# Altium integrated library Atmel Microcontroller 32-Bit ARM.IntLib: 116 symbols (part 6 of 10)
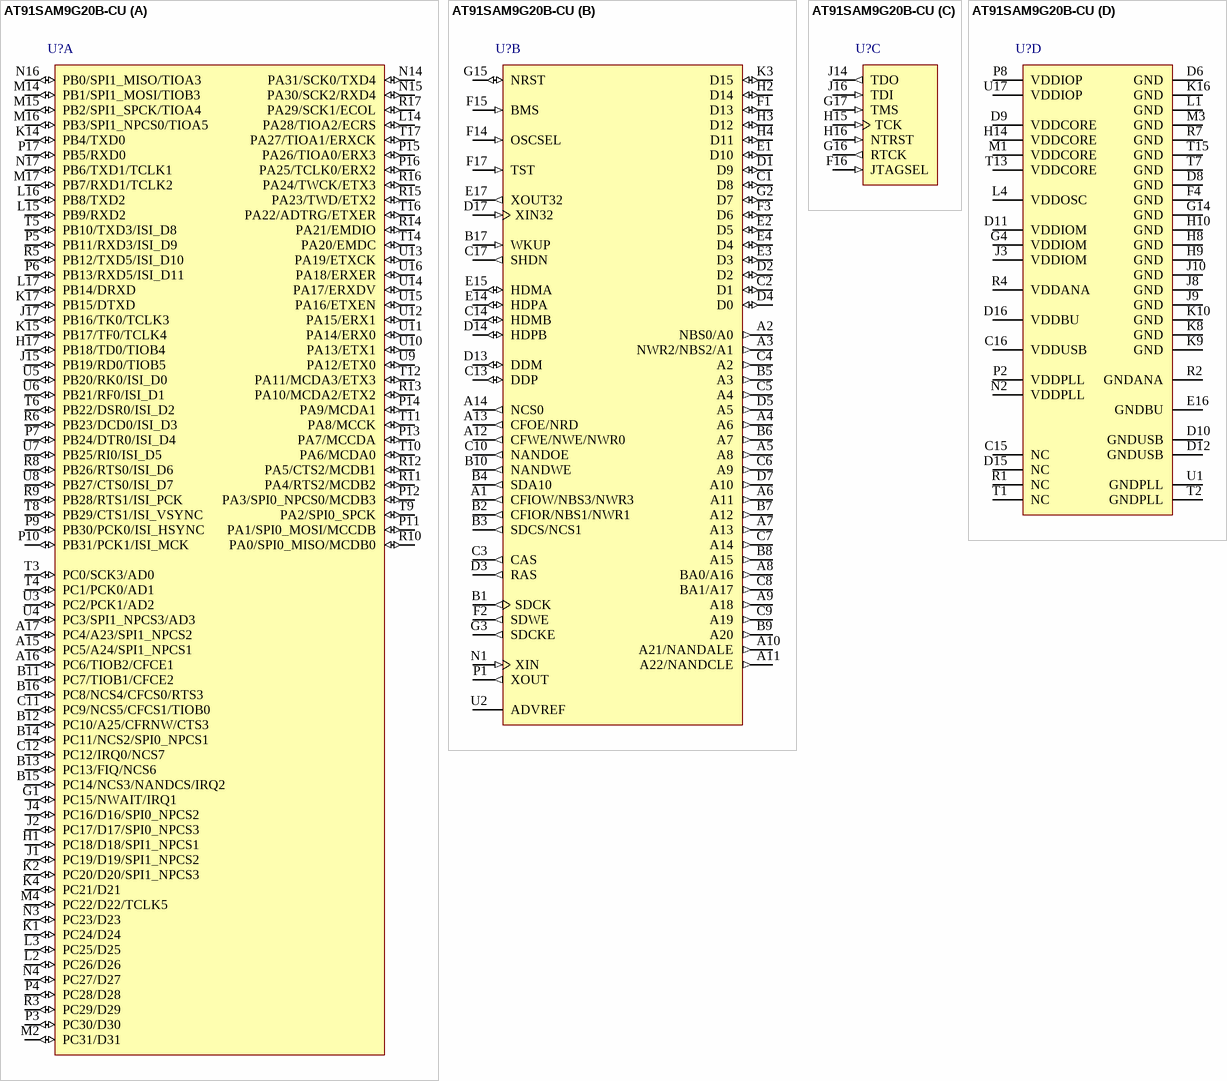
[diagram p57: symbol AT91SAM9G20B-CU]

## AT91SAM9G20B-CU
designator U?
AT91 ARM Thumb 32-bit Microcontroller, 64KB ROM, 2x16KB SRAM, EBI, E-MAC, FS USB, 24-ch. PDC, 217-Pin LFBGA, Industrial Grade (-40°C to 85°C), Pb-Free; Published: 20-Sep-2010; DatasheetVersion: revE, Feb-2010; PackageVersion: 2009; PackageReference: LFBGA217; Publisher: Altium Limited; PackageDescription: 217-Ball Plastic Low Profile Fine-Pitch BGA, 15 x 15 mm Body, 0.8 mm Pitch; Supplier 1: Digi-Key; Supplier Part Number 1: AT91SAM9G20B-CU-ND; Supplier 2: Farnell; Supplier Part Number 2: 1715469; Supplier 3: Mouser; Supplier Part Number 3: 556-AT91SAM9G20B-CU; Code_JEDEC: MO-205; ComponentLink1Description: Manufacturer Link; ComponentLink1URL: http://www.atmel.com/products/AT91/default.asp?; ComponentLink2Description: AT91SAM9G20 Datasheet; ComponentLink2URL: http://www.atmel.com/dyn/resources/prod_documents/doc6384.pdf; ComponentLink3Description: AT91SAM9G20 Summary; ComponentLink3URL: http://www.atmel.com/dyn/resources/prod_documents/6384s.pdf; ComponentLink4Description: ARM926EJ-S Reference Manual; ComponentLink4URL: http://www.atmel.com/dyn/resources/prod_documents/ARM_926EJS_TRM.pdf; ComponentLink5Description: Atmel.com Home; ComponentLink5URL: http://www.atmel.com
footprint LFBGA217 (BGA, 208-Leads, Body 15x15mm, Pitch 0.8mm)
part A pins: A15 PC5/A24/SPI1_NPCS1 (io), A16 PC6/TIOB2/CFCE1 (io), A17 PC4/A23/SPI1_NPCS2 (io), B11 PC7/TIOB1/CFCE2 (io), B12 PC10/A25/CFRNW/CTS3 (io), B13 PC13/FIQ/NCS6 (io), B14 PC11/NCS2/SPI0_NPCS1 (io), B15 PC14/NCS3/NANDCS/IRQ2 (io), B16 PC8/NCS4/CFCS0/RTS3 (io), C11 PC9/NCS5/CFCS1/TIOB0 (io), C12 PC12/IRQ0/NCS7 (io), G1 PC15/NWAIT/IRQ1 (io), H1 PC18/D18/SPI1_NPCS1 (io), H17 PB18/TD0/TIOB4 (io), J1 PC19/D19/SPI1_NPCS2 (io), J2 PC17/D17/SPI0_NPCS3 (io), J4 PC16/D16/SPI0_NPCS2 (io), J15 PB19/RD0/TIOB5 (io), J17 PB16/TK0/TCLK3 (io), K1 PC24/D24 (io), K2 PC20/D20/SPI1_NPCS3 (io), K4 PC21/D21 (io), K14 PB4/TXD0 (io), K15 PB17/TF0/TCLK4 (io), K17 PB15/DTXD (io), L2 PC26/D26 (io), L3 PC25/D25 (io), L14 PA28/TIOA2/ECRS (io), L15 PB9/RXD2 (io), L16 PB8/TXD2 (io), L17 PB14/DRXD (io), M2 PC31/D31 (io), M4 PC22/D22/TCLK5 (io), M14 PB1/SPI1_MOSI/TIOB3 (io), M15 PB2/SPI1_SPCK/TIOA4 (io), M16 PB3/SPI1_NPCS0/TIOA5 (io), M17 PB7/RXD1/TCLK2 (io), N3 PC23/D23 (io), N4 PC27/D27 (io), N14 PA31/SCK0/TXD4 (io), N15 PA30/SCK2/RXD4 (io), N16 PB0/SPI1_MISO/TIOA3 (io), N17 PB6/TXD1/TCLK1 (io), P3 PC30/D30 (io), P4 PC28/D28 (io), P5 PB11/RXD3/ISI_D9 (io), P6 PB13/RXD5/ISI_D11 (io), P7 PB24/DTR0/ISI_D4 (io), P9 PB30/PCK0/ISI_HSYNC (io), P10 PB31/PCK1/ISI_MCK (io), P11 PA1/SPI0_MOSI/MCCDB (io), P12 PA3/SPI0_NPCS0/MCDB3 (io), P13 PA7/MCCDA (io), P14 PA9/MCDA1 (io), P15 PA26/TIOA0/ERX3 (io), P16 PA25/TCLK0/ERX2 (io), P17 PB5/RXD0 (io), R3 PC29/D29 (io), R5 PB12/TXD5/ISI_D10 (io), R6 PB23/DCD0/ISI_D3 (io), R8 PB26/RTS0/ISI_D6 (io), R9 PB28/RTS1/ISI_PCK (io), R10 PA0/SPI0_MISO/MCDB0 (io), R11 PA4/RTS2/MCDB2 (io), R12 PA5/CTS2/MCDB1 (io), R13 PA10/MCDA2/ETX2 (io), R14 PA21/EMDIO (io), R15 PA23/TWD/ETX2 (io), R16 PA24/TWCK/ETX3 (io), R17 PA29/SCK1/ECOL (io), T3 PC0/SCK3/AD0 (io), T4 PC1/PCK0/AD1 (io), T5 PB10/TXD3/ISI_D8 (io), T6 PB22/DSR0/ISI_D2 (io), T8 PB29/CTS1/ISI_VSYNC (io), T9 PA2/SPI0_SPCK (io), T10 PA6/MCDA0 (io), T11 PA8/MCCK (io), T12 PA11/MCDA3/ETX3 (io), T14 PA20/EMDC (io), T16 PA22/ADTRG/ETXER (io), T17 PA27/TIOA1/ERXCK (io), U3 PC2/PCK1/AD2 (io), U4 PC3/SPI1_NPCS3/AD3 (io), U5 PB20/RK0/ISI_D0 (io), U6 PB21/RF0/ISI_D1 (io), U7 PB25/RI0/ISI_D5 (io), U8 PB27/CTS0/ISI_D7 (io), U9 PA12/ETX0 (io), U10 PA13/ETX1 (io), U11 PA14/ERX0 (io), U12 PA15/ERX1 (io), U13 PA19/ETXCK (io), U14 PA17/ERXDV (io), U15 PA16/ETXEN (io), U16 PA18/ERXER (io)
part B pins: A1 CFIOW/NBS3/NWR3 (out), A2 NBS0/A0 (out), A3 NWR2/NBS2/A1 (out), A4 A6 (out), A5 A8 (out), A6 A11 (out), A7 A13 (out), A8 BA0/A16 (out), A9 A18 (out), A10 A21/NANDALE (out), A11 A22/NANDCLE (out), A12 CFWE/NWE/NWR0 (out), A13 CFOE/NRD (out), A14 NCS0 (out), B1 SDCK (out), B2 CFIOR/NBS1/NWR1 (out), B3 SDCS/NCS1 (out), B4 SDA10 (out), B5 A3 (out), B6 A7 (out), B7 A12 (out), B8 A15 (out), B9 A20 (out), B10 NANDWE (out), B17 WKUP (in), C1 D8 (io), C2 D1 (io), C3 CAS (out), C4 A2 (out), C5 A4 (out), C6 A9 (out), C7 A14 (out), C8 BA1/A17 (out), C9 A19 (out), C10 NANDOE (out), C13 DDP (io), C14 HDMB (io), C17 SHDN (out), D1 D9 (io), D2 (io), D3 RAS (out), D4 D0 (io), D5 A5 (out), D7 A10 (out), D13 DDM (io), D14 HDPB (io), D17 XIN32 (in), E1 D10 (io), E2 D5 (io), E3 D3 (io), E4 D4 (io), E14 HDPA (io), E15 HDMA (io), E17 XOUT32 (out), F1 D13 (io), F2 SDWE (out), F3 D6 (io), F14 OSCSEL (in), F15 BMS (in), F17 TST (in), G2 D7 (io), G3 SDCKE (out), G15 NRST (io), H2 D14 (io), H3 D12 (io), H4 D11 (io), K3 D15 (io), N1 XIN (in), P1 XOUT (out), U2 ADVREF (power)
part C pins: F16 JTAGSEL (in), G16 RTCK (out), G17 TMS (in), H15 TCK (in), H16 NTRST (in), J14 TDO (out), J16 TDI (in)
part D pins: C15 NC, C16 VDDUSB (power), D6 GND (power), D8 GND (power), D9 VDDCORE (power), D10 GNDUSB (power), D11 VDDIOM (power), D12 GNDUSB (power), D15 NC, D16 VDDBU (power), E16 GNDBU (power), F4 GND (power), G4 VDDIOM (power), G14 GND (power), H8 GND (power), H9 GND (power), H10 GND (power), H14 VDDCORE (power), J3 VDDIOM (power), J8 GND (power), J9 GND (power), J10 GND (power), K8 GND (power), K9 GND (power), K10 GND (power), K16 GND (power), L1 GND (power), L4 VDDOSC (power), M1 VDDCORE (power), M3 GND (power), N2 VDDPLL (power), P2 VDDPLL (power), P8 VDDIOP (power), R1 NC, R2 GNDANA (power), R4 VDDANA (power), R7 GND (power), T1 NC, T2 GNDPLL (power), T7 GND (power), T13 VDDCORE (power), T15 GND (power), U1 GNDPLL (power), U17 VDDIOP (power)

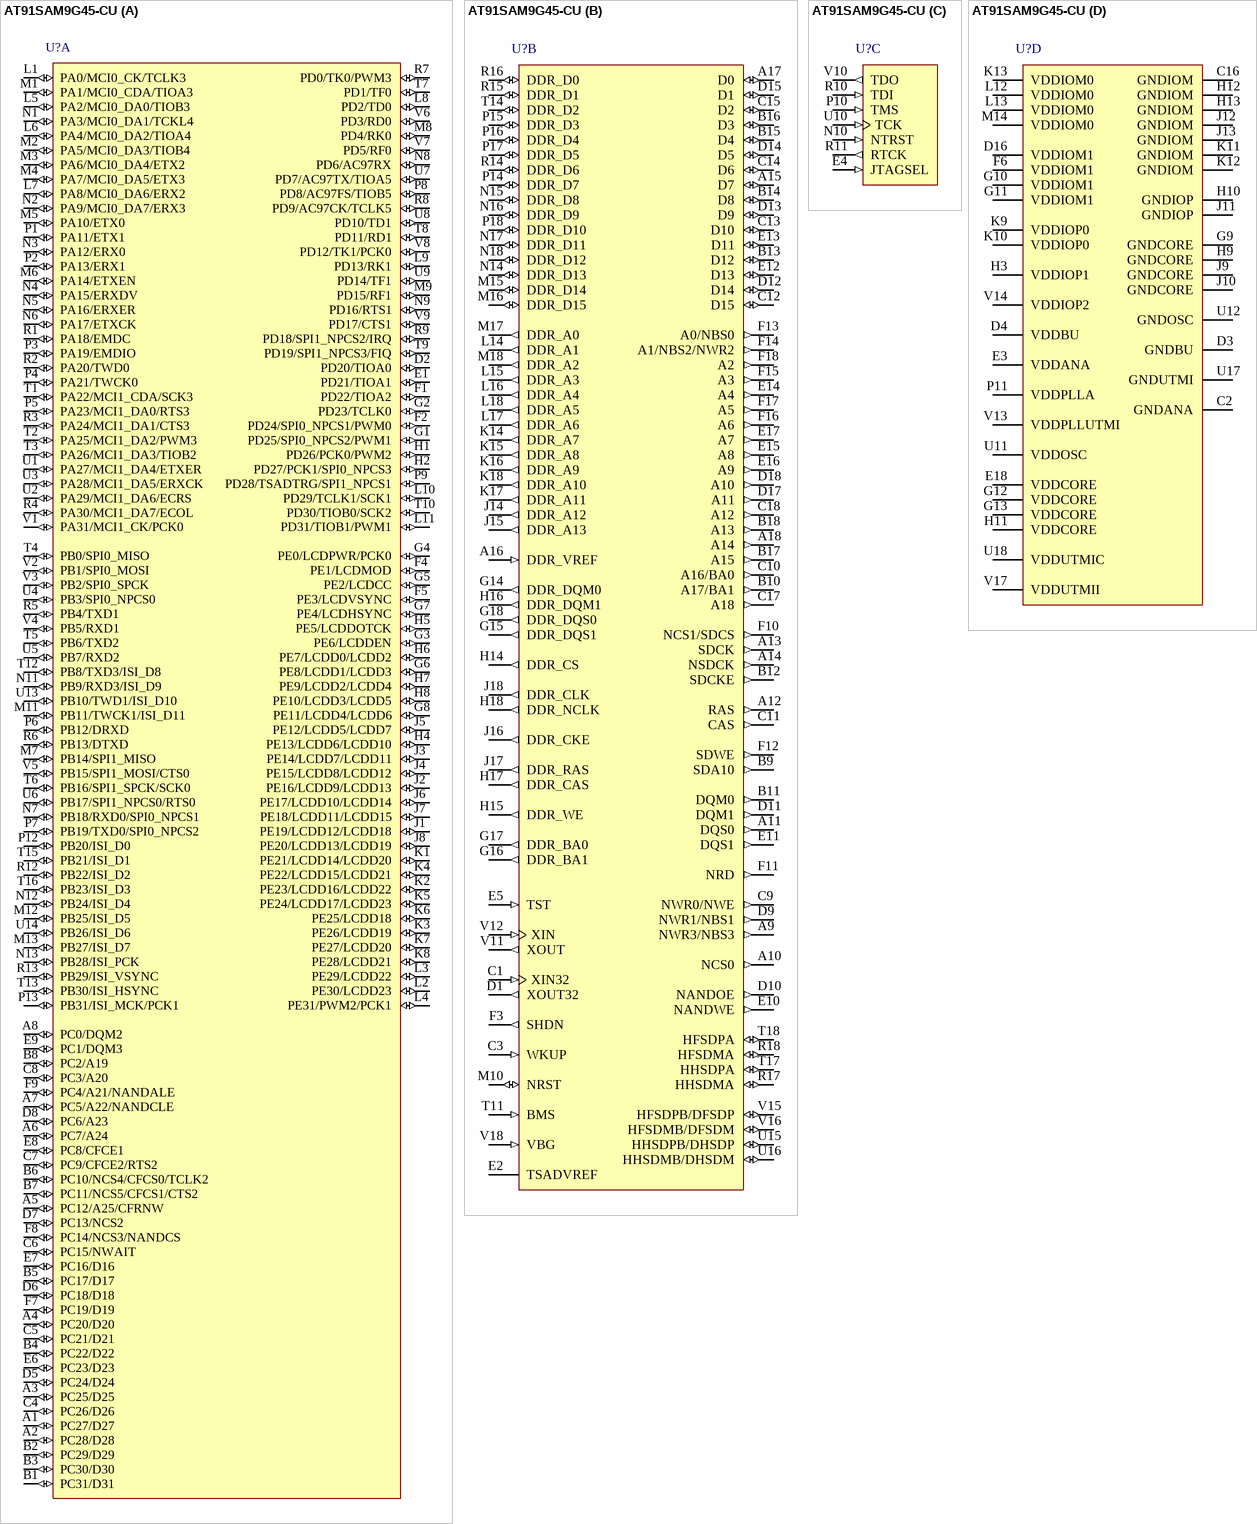
[diagram p32: symbol AT91SAM9G45-CU]

## AT91SAM9G45-CU
designator U?
AT91 ARM Thumb 32-bit Microcontroller, 64KB ROM, 64KB SRAM, EBI, E-MAC, HS USB, 24-ch. PDC, 324-Pin TFBGA, Industrial Grade (-40°C to 85°C), Pb-Free; Published: 20-Sep-2010; DatasheetVersion: revE, Dec-2009; PackageVersion: 2009; PackageReference: TFBGA324; Publisher: Altium Limited; PackageDescription: 324-Ball Low Profile Fine-Pitch BGA, 15 x 15 mm Body, 0.8 mm Pitch; Supplier 1: Digi-Key; Supplier Part Number 1: AT91SAM9G45-CU-ND; Supplier 2: Mouser; Supplier Part Number 2: 556-AT91SAM9G45-CU; Code_JEDEC: MO-210; ComponentLink1Description: Manufacturer Link; ComponentLink1URL: http://www.atmel.com/products/AT91/default.asp?; ComponentLink2Description: AT91SAM9G45 Datasheet; ComponentLink2URL: http://www.atmel.com/dyn/resources/prod_documents/doc6438.pdf; ComponentLink3Description: AT91SAM9G45 Summary; ComponentLink3URL: http://www.atmel.com/dyn/resources/prod_documents/6438s.pdf; ComponentLink4Description: ARM926EJ-S Reference Manual; ComponentLink4URL: http://www.atmel.com/dyn/resources/prod_documents/ARM_926EJS_TRM.pdf; ComponentLink5Description: Atmel.com Home; ComponentLink5URL: http://www.atmel.com
footprint TFBGA324 (BGA, 324-Leads, Body 15x15mm, Pitch 0.8mm)
part A pins: A1 PC27/D27 (io), A2 PC28/D28 (io), A3 PC25/D25 (io), A4 PC20/D20 (io), A5 PC12/A25/CFRNW (io), A6 PC7/A24 (io), A7 PC5/A22/NANDCLE (io), A8 PC0/DQM2 (io), B1 PC31/D31 (io), B2 PC29/D29 (io), B3 PC30/D30 (io), B4 PC22/D22 (io), B5 PC17/D17 (io), B6 PC10/NCS4/CFCS0/TCLK2 (io), B7 PC11/NCS5/CFCS1/CTS2 (io), B8 PC2/A19 (io), C4 PC26/D26 (io), C5 PC21/D21 (io), C6 PC15/NWAIT (io), C7 PC9/CFCE2/RTS2 (io), C8 PC3/A20 (io), D2 PD20/TIOA0 (io), D5 PC24/D24 (io), D6 PC18/D18 (io), D7 PC13/NCS2 (io), D8 PC6/A23 (io), E1 PD21/TIOA1 (io), E6 PC23/D23 (io), E7 PC16/D16 (io), E8 PC8/CFCE1 (io), E9 PC1/DQM3 (io), F1 PD22/TIOA2 (io), F2 PD24/SPI0_NPCS1/PWM0 (io), F4 PE1/LCDMOD (io), F5 PE3/LCDVSYNC (io), F7 PC19/D19 (io), F8 PC14/NCS3/NANDCS (io), F9 PC4/A21/NANDALE (io), G1 PD25/SPI0_NPCS2/PWM1 (io), G2 PD23/TCLK0 (io), G3 PE6/LCDDEN (io), G4 PE0/LCDPWR/PCK0 (io), G5 PE2/LCDCC (io), G6 PE8/LCDD1/LCDD3 (io), G7 PE4/LCDHSYNC (io), G8 PE11/LCDD4/LCDD6 (io), H1 PD26/PCK0/PWM2 (io), H2 PD27/PCK1/SPI0_NPCS3 (io), H4 PE13/LCDD6/LCDD10 (io), H5 PE5/LCDDOTCK (io), H6 PE7/LCDD0/LCDD2 (io), H7 PE9/LCDD2/LCDD4 (io), H8 PE10/LCDD3/LCDD5 (io), J1 PE19/LCDD12/LCDD18 (io), J2 PE16/LCDD9/LCDD13 (io), J3 PE14/LCDD7/LCDD11 (io), J4 PE15/LCDD8/LCDD12 (io), J5 PE12/LCDD5/LCDD7 (io), J6 PE17/LCDD10/LCDD14 (io), J7 PE18/LCDD11/LCDD15 (io), J8 PE20/LCDD13/LCDD19 (io), K1 PE21/LCDD14/LCDD20 (io), K2 PE23/LCDD16/LCDD22 (io), K3 PE26/LCDD19 (io), K4 PE22/LCDD15/LCDD21 (io), K5 PE24/LCDD17/LCDD23 (io), K6 PE25/LCDD18 (io), K7 PE27/LCDD20 (io), K8 PE28/LCDD21 (io), L1 PA0/MCI0_CK/TCLK3 (io), L2 PE30/LCDD23 (io), L3 PE29/LCDD22 (io), L4 PE31/PWM2/PCK1 (io), L5 PA2/MCI0_DA0/TIOB3 (io), L6 PA4/MCI0_DA2/TIOA4 (io), L7 PA8/MCI0_DA6/ERX2 (io), L8 PD2/TD0 (io), L9 PD13/RK1 (io), L10 PD29/TCLK1/SCK1 (io), L11 PD31/TIOB1/PWM1 (io), M1 PA1/MCI0_CDA/TIOA3 (io), M2 PA5/MCI0_DA3/TIOB4 (io), M3 PA6/MCI0_DA4/ETX2 (io), M4 PA7/MCI0_DA5/ETX3 (io), M5 PA10/ETX0 (io), M6 PA14/ETXEN (io), M7 PB14/SPI1_MISO (io), M8 PD4/RK0 (io), M9 PD15/RF1 (io), M11 PB11/TWCK1/ISI_D11 (io), M12 PB25/ISI_D5 (io), M13 PB27/ISI_D7 (io), N1 PA3/MCI0_DA1/TCKL4 (io), N2 PA9/MCI0_DA7/ERX3 (io), N3 PA12/ERX0 (io), N4 PA15/ERXDV (io), N5 PA16/ERXER (io), N6 PA17/ETXCK (io), N7 PB18/RXD0/SPI0_NPCS1 (io), N8 PD6/AC97RX (io), N9 PD16/RTS1 (io), N11 PB9/RXD3/ISI_D9 (io), N12 PB24/ISI_D4 (io), N13 PB28/ISI_PCK (io), P1 PA11/ETX1 (io), P2 PA13/ERX1 (io), P3 PA19/EMDIO (io), P4 PA21/TWCK0 (io), P5 PA23/MCI1_DA0/RTS3 (io), P6 PB12/DRXD (io), P7 PB19/TXD0/SPI0_NPCS2 (io), P8 PD8/AC97FS/TIOB5 (io), P9 PD28/TSADTRG/SPI1_NPCS1 (io), P12 PB20/ISI_D0 (io), P13 PB31/ISI_MCK/PCK1 (io), R1 PA18/EMDC (io), R2 PA20/TWD0 (io), R3 PA24/MCI1_DA1/CTS3 (io), R4 PA30/MCI1_DA7/ECOL (io), R5 PB4/TXD1 (io), R6 PB13/DTXD (io), R7 PD0/TK0/PWM3 (io), R8 PD9/AC97CK/TCLK5 (io), R9 PD18/SPI1_NPCS2/IRQ (io), R12 PB22/ISI_D2 (io), R13 PB29/ISI_VSYNC (io), T1 PA22/MCI1_CDA/SCK3 (io), T2 PA25/MCI1_DA2/PWM3 (io), T3 PA26/MCI1_DA3/TIOB2 (io), T4 PB0/SPI0_MISO (io), T5 PB6/TXD2 (io), T6 PB16/SPI1_SPCK/SCK0 (io), T7 PD1/TF0 (io), T8 PD11/RD1 (io), T9 PD19/SPI1_NPCS3/FIQ (io), T10 PD30/TIOB0/SCK2 (io), T12 PB8/TXD3/ISI_D8 (io), T13 PB30/ISI_HSYNC (io), T15 PB21/ISI_D1 (io), T16 PB23/ISI_D3 (io), U1 PA27/MCI1_DA4/ETXER (io), U2 PA29/MCI1_DA6/ECRS (io), U3 PA28/MCI1_DA5/ERXCK (io), U4 PB3/SPI0_NPCS0 (io), U5 PB7/RXD2 (io), U6 PB17/SPI1_NPCS0/RTS0 (io), U7 PD7/AC97TX/TIOA5 (io), U8 PD10/TD1 (io), U9 PD14/TF1 (io), U13 PB10/TWD1/ISI_D10 (io), U14 PB26/ISI_D6 (io), V1 PA31/MCI1_CK/PCK0 (io), V2 PB1/SPI0_MOSI (io), V3 PB2/SPI0_SPCK (io), V4 PB5/RXD1 (io), V5 PB15/SPI1_MOSI/CTS0 (io), V6 PD3/RD0 (io), V7 PD5/RF0 (io), V8 PD12/TK1/PCK0 (io), V9 PD17/CTS1 (io)
part B pins: A9 NWR3/NBS3 (out), A10 NCS0 (out), A11 DQS0 (out), A12 RAS (out), A13 SDCK (out), A14 NSDCK (out), A15 D7 (io), A16 DDR_VREF (in), A17 D0 (io), A18 A14 (out), B9 SDA10 (out), B10 A17/BA1 (out), B11 DQM0 (out), B12 SDCKE (out), B13 D12 (io), B14 D8 (io), B15 D4 (io), B16 D3 (io), B17 A15 (out), B18 A13 (out), C1 XIN32 (in), C3 WKUP (in), C9 NWR0/NWE (out), C10 A16/BA0 (out), C11 CAS (out), C12 D15 (io), C13 D10 (io), C14 D6 (io), C15 D2 (io), C17 A18 (out), C18 A12 (out), D1 XOUT32 (out), D9 NWR1/NBS1 (out), D10 NANDOE (out), D11 DQM1 (out), D12 D14 (io), D13 D9 (io), D14 D5 (io), D15 D1 (io), D17 A11 (out), D18 A10 (out), E2 TSADVREF (power), E5 TST (in), E10 NANDWE (out), E11 DQS1 (out), E12 D13 (io), E13 D11 (io), E14 A4 (out), E15 A8 (out), E16 A9 (out), E17 A7 (out), F3 SHDN (out), F10 NCS1/SDCS (out), F11 NRD (out), F12 SDWE (out), F13 A0/NBS0 (out), F14 A1/NBS2/NWR2 (out), F15 A3 (out), F16 A6 (out), F17 A5 (out), F18 A2 (out), G14 DDR_DQM0 (out), G15 DDR_DQS1 (out), G16 DDR_BA1 (out), G17 DDR_BA0 (out), G18 DDR_DQS0 (out), H14 DDR_CS (out), H15 DDR_WE (out), H16 DDR_DQM1 (out), H17 DDR_CAS (out), H18 DDR_NCLK (out), J14 DDR_A12 (out), J15 DDR_A13 (out), J16 DDR_CKE (out), J17 DDR_RAS (out), J18 DDR_CLK (out), K14 DDR_A7 (out), K15 DDR_A8 (out), K16 DDR_A9 (out), K17 DDR_A11 (out), K18 DDR_A10 (out), L14 DDR_A1 (out), L15 DDR_A3 (out), L16 DDR_A4 (out), L17 DDR_A6 (out), L18 DDR_A5 (out), M10 NRST (io), M15 DDR_D14 (io), M16 DDR_D15 (io), M17 DDR_A0 (out), M18 DDR_A2 (out), N14 DDR_D13 (io), N15 DDR_D8 (io), N16 DDR_D9 (io), N17 DDR_D11 (io), N18 DDR_D12 (io), P14 DDR_D7 (io), P15 DDR_D3 (io), P16 DDR_D4 (io), P17 DDR_D5 (io), P18 DDR_D10 (io), R14 DDR_D6 (io), R15 DDR_D1 (io), R16 DDR_D0 (io), R17 HHSDMA (io), R18 HFSDMA (io), T11 BMS (in), T14 DDR_D2 (io), T17 HHSDPA (io), T18 HFSDPA (io), U15 HHSDPB/DHSDP (io), U16 HHSDMB/DHSDM (io), V11 XOUT (out), V12 XIN (in), V15 HFSDPB/DFSDP (io), V16 HFSDMB/DFSDM (io), V18 VBG (in)
part C pins: E4 JTAGSEL (in), N10 NTRST (in), P10 TMS (in), R10 TDI (in), R11 RTCK (out), U10 TCK (in), V10 TDO (out)
part D pins: C2 GNDANA (power), C16 GNDIOM (power), D3 GNDBU (power), D4 VDDBU (power), D16 VDDIOM1 (power), E3 VDDANA (power), E18 VDDCORE (power), F6 VDDIOM1 (power), G9 GNDCORE (power), G10 VDDIOM1 (power), G11 VDDIOM1 (power), G12 VDDCORE (power), G13 VDDCORE (power), H3 VDDIOP1 (power), H9 GNDCORE (power), H10 GNDIOP (power), H11 VDDCORE (power), H12 GNDIOM (power), H13 GNDIOM (power), J9 GNDCORE (power), J10 GNDCORE (power), J11 GNDIOP (power), J12 GNDIOM (power), J13 GNDIOM (power), K9 VDDIOP0 (power), K10 VDDIOP0 (power), K11 GNDIOM (power), K12 GNDIOM (power), K13 VDDIOM0 (power), L12 VDDIOM0 (power), L13 VDDIOM0 (power), M14 VDDIOM0 (power), P11 VDDPLLA (power), U11 VDDOSC (power), U12 GNDOSC (power), U17 GNDUTMI (power), U18 VDDUTMIC (power), V13 VDDPLLUTMI (power), V14 VDDIOP2 (power), V17 VDDUTMII (power)

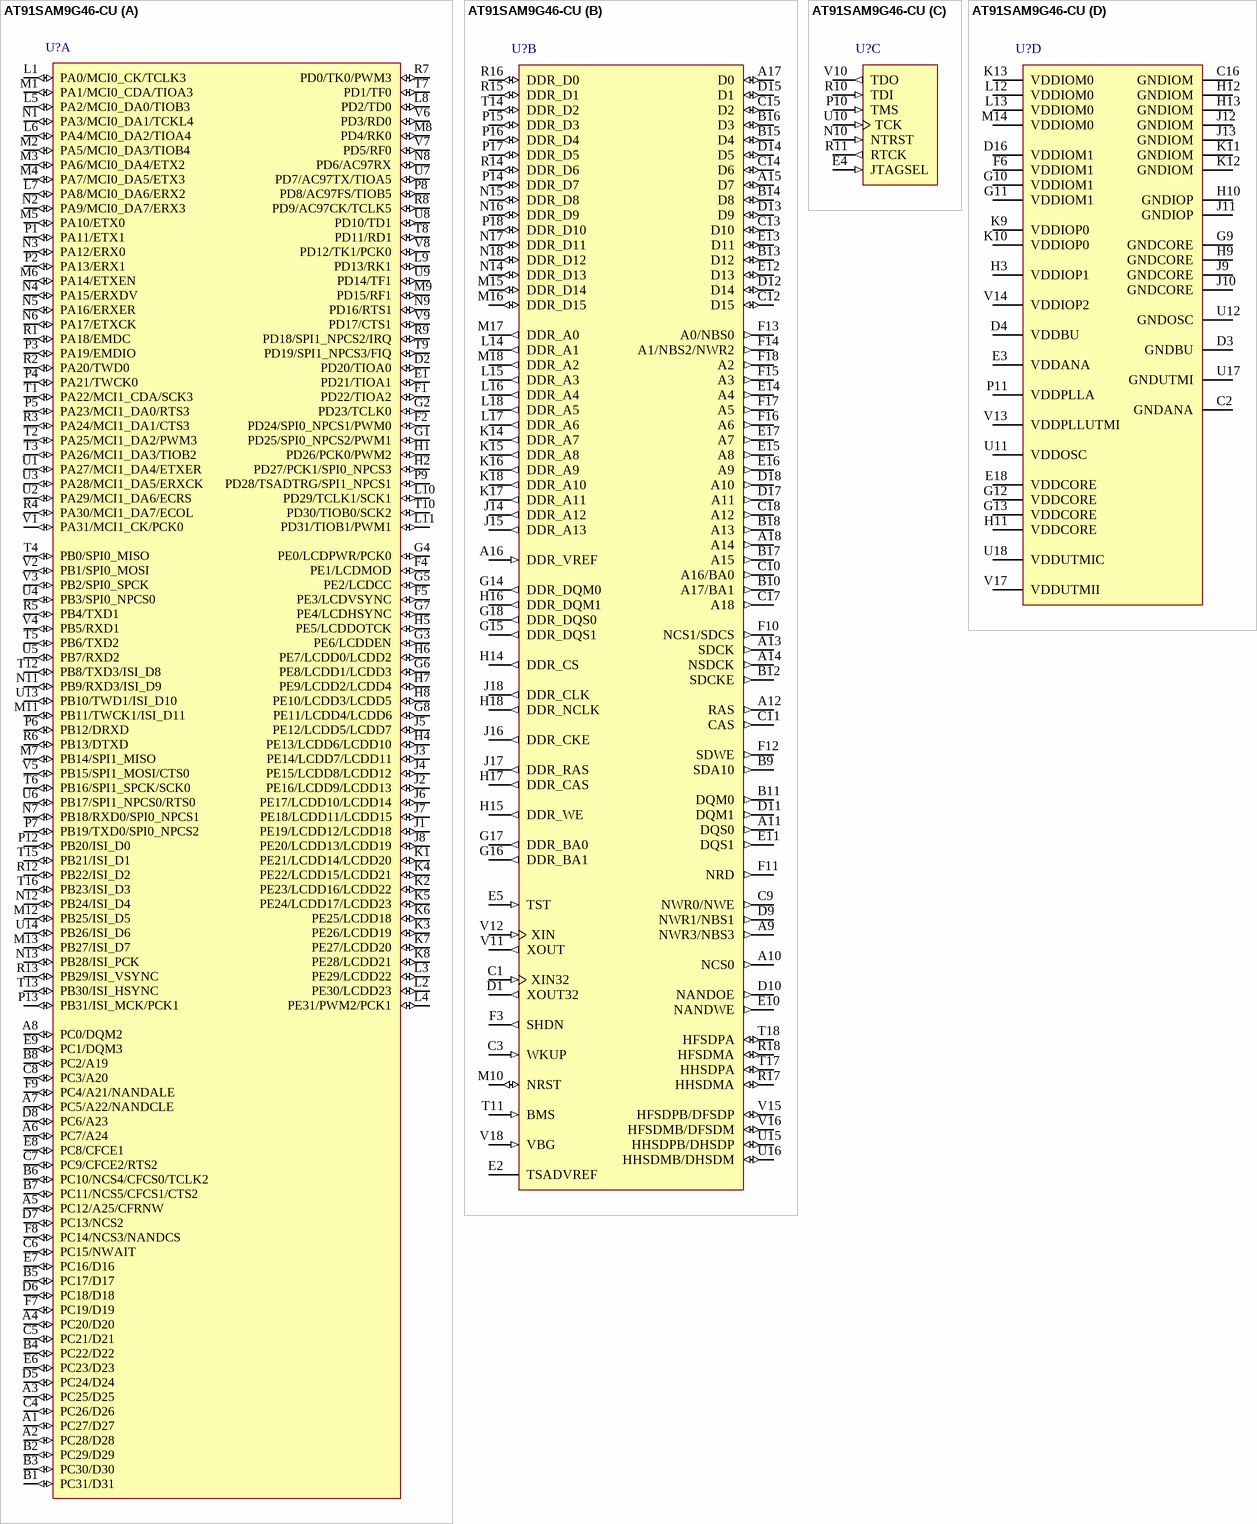
[diagram p33: symbol AT91SAM9G46-CU]

## AT91SAM9G46-CU
designator U?
AT91 ARM Thumb 32-bit Microcontroller, 64KB ROM, 64KB SRAM, EBI, E-MAC, HS USB, 256-bit AES, 324-Pin TFBGA, Industrial Grade (-40°C to 85°C), Pb-Free; Published: 20-Sep-2010; DatasheetVersion: revB, Apr-2010; PackageVersion: 2009; PackageReference: TFBGA324; Publisher: Altium Limited; PackageDescription: 324-Ball Low Profile Fine-Pitch BGA, 15 x 15 mm Body, 0.8 mm Pitch; Supplier 1: Digi-Key; Supplier Part Number 1: AT91SAM9G46-CU-ND; Supplier 2: Mouser; Supplier Part Number 2: 556-AT91SAM9G46-CU; Code_JEDEC: MO-210; ComponentLink1Description: Manufacturer Link; ComponentLink1URL: http://www.atmel.com/products/AT91/default.asp?; ComponentLink2Description: AT91SAM9G46 Summary; ComponentLink2URL: http://www.atmel.com/dyn/resources/prod_documents/11028S.pdf; ComponentLink3Description: ARM926EJ-S Reference Manual; ComponentLink3URL: http://www.atmel.com/dyn/resources/prod_documents/ARM_926EJS_TRM.pdf; ComponentLink4Description: Atmel.com Home; ComponentLink4URL: http://www.atmel.com
footprint TFBGA324 (BGA, 324-Leads, Body 15x15mm, Pitch 0.8mm)
part A pins: A1 PC27/D27 (io), A2 PC28/D28 (io), A3 PC25/D25 (io), A4 PC20/D20 (io), A5 PC12/A25/CFRNW (io), A6 PC7/A24 (io), A7 PC5/A22/NANDCLE (io), A8 PC0/DQM2 (io), B1 PC31/D31 (io), B2 PC29/D29 (io), B3 PC30/D30 (io), B4 PC22/D22 (io), B5 PC17/D17 (io), B6 PC10/NCS4/CFCS0/TCLK2 (io), B7 PC11/NCS5/CFCS1/CTS2 (io), B8 PC2/A19 (io), C4 PC26/D26 (io), C5 PC21/D21 (io), C6 PC15/NWAIT (io), C7 PC9/CFCE2/RTS2 (io), C8 PC3/A20 (io), D2 PD20/TIOA0 (io), D5 PC24/D24 (io), D6 PC18/D18 (io), D7 PC13/NCS2 (io), D8 PC6/A23 (io), E1 PD21/TIOA1 (io), E6 PC23/D23 (io), E7 PC16/D16 (io), E8 PC8/CFCE1 (io), E9 PC1/DQM3 (io), F1 PD22/TIOA2 (io), F2 PD24/SPI0_NPCS1/PWM0 (io), F4 PE1/LCDMOD (io), F5 PE3/LCDVSYNC (io), F7 PC19/D19 (io), F8 PC14/NCS3/NANDCS (io), F9 PC4/A21/NANDALE (io), G1 PD25/SPI0_NPCS2/PWM1 (io), G2 PD23/TCLK0 (io), G3 PE6/LCDDEN (io), G4 PE0/LCDPWR/PCK0 (io), G5 PE2/LCDCC (io), G6 PE8/LCDD1/LCDD3 (io), G7 PE4/LCDHSYNC (io), G8 PE11/LCDD4/LCDD6 (io), H1 PD26/PCK0/PWM2 (io), H2 PD27/PCK1/SPI0_NPCS3 (io), H4 PE13/LCDD6/LCDD10 (io), H5 PE5/LCDDOTCK (io), H6 PE7/LCDD0/LCDD2 (io), H7 PE9/LCDD2/LCDD4 (io), H8 PE10/LCDD3/LCDD5 (io), J1 PE19/LCDD12/LCDD18 (io), J2 PE16/LCDD9/LCDD13 (io), J3 PE14/LCDD7/LCDD11 (io), J4 PE15/LCDD8/LCDD12 (io), J5 PE12/LCDD5/LCDD7 (io), J6 PE17/LCDD10/LCDD14 (io), J7 PE18/LCDD11/LCDD15 (io), J8 PE20/LCDD13/LCDD19 (io), K1 PE21/LCDD14/LCDD20 (io), K2 PE23/LCDD16/LCDD22 (io), K3 PE26/LCDD19 (io), K4 PE22/LCDD15/LCDD21 (io), K5 PE24/LCDD17/LCDD23 (io), K6 PE25/LCDD18 (io), K7 PE27/LCDD20 (io), K8 PE28/LCDD21 (io), L1 PA0/MCI0_CK/TCLK3 (io), L2 PE30/LCDD23 (io), L3 PE29/LCDD22 (io), L4 PE31/PWM2/PCK1 (io), L5 PA2/MCI0_DA0/TIOB3 (io), L6 PA4/MCI0_DA2/TIOA4 (io), L7 PA8/MCI0_DA6/ERX2 (io), L8 PD2/TD0 (io), L9 PD13/RK1 (io), L10 PD29/TCLK1/SCK1 (io), L11 PD31/TIOB1/PWM1 (io), M1 PA1/MCI0_CDA/TIOA3 (io), M2 PA5/MCI0_DA3/TIOB4 (io), M3 PA6/MCI0_DA4/ETX2 (io), M4 PA7/MCI0_DA5/ETX3 (io), M5 PA10/ETX0 (io), M6 PA14/ETXEN (io), M7 PB14/SPI1_MISO (io), M8 PD4/RK0 (io), M9 PD15/RF1 (io), M11 PB11/TWCK1/ISI_D11 (io), M12 PB25/ISI_D5 (io), M13 PB27/ISI_D7 (io), N1 PA3/MCI0_DA1/TCKL4 (io), N2 PA9/MCI0_DA7/ERX3 (io), N3 PA12/ERX0 (io), N4 PA15/ERXDV (io), N5 PA16/ERXER (io), N6 PA17/ETXCK (io), N7 PB18/RXD0/SPI0_NPCS1 (io), N8 PD6/AC97RX (io), N9 PD16/RTS1 (io), N11 PB9/RXD3/ISI_D9 (io), N12 PB24/ISI_D4 (io), N13 PB28/ISI_PCK (io), P1 PA11/ETX1 (io), P2 PA13/ERX1 (io), P3 PA19/EMDIO (io), P4 PA21/TWCK0 (io), P5 PA23/MCI1_DA0/RTS3 (io), P6 PB12/DRXD (io), P7 PB19/TXD0/SPI0_NPCS2 (io), P8 PD8/AC97FS/TIOB5 (io), P9 PD28/TSADTRG/SPI1_NPCS1 (io), P12 PB20/ISI_D0 (io), P13 PB31/ISI_MCK/PCK1 (io), R1 PA18/EMDC (io), R2 PA20/TWD0 (io), R3 PA24/MCI1_DA1/CTS3 (io), R4 PA30/MCI1_DA7/ECOL (io), R5 PB4/TXD1 (io), R6 PB13/DTXD (io), R7 PD0/TK0/PWM3 (io), R8 PD9/AC97CK/TCLK5 (io), R9 PD18/SPI1_NPCS2/IRQ (io), R12 PB22/ISI_D2 (io), R13 PB29/ISI_VSYNC (io), T1 PA22/MCI1_CDA/SCK3 (io), T2 PA25/MCI1_DA2/PWM3 (io), T3 PA26/MCI1_DA3/TIOB2 (io), T4 PB0/SPI0_MISO (io), T5 PB6/TXD2 (io), T6 PB16/SPI1_SPCK/SCK0 (io), T7 PD1/TF0 (io), T8 PD11/RD1 (io), T9 PD19/SPI1_NPCS3/FIQ (io), T10 PD30/TIOB0/SCK2 (io), T12 PB8/TXD3/ISI_D8 (io), T13 PB30/ISI_HSYNC (io), T15 PB21/ISI_D1 (io), T16 PB23/ISI_D3 (io), U1 PA27/MCI1_DA4/ETXER (io), U2 PA29/MCI1_DA6/ECRS (io), U3 PA28/MCI1_DA5/ERXCK (io), U4 PB3/SPI0_NPCS0 (io), U5 PB7/RXD2 (io), U6 PB17/SPI1_NPCS0/RTS0 (io), U7 PD7/AC97TX/TIOA5 (io), U8 PD10/TD1 (io), U9 PD14/TF1 (io), U13 PB10/TWD1/ISI_D10 (io), U14 PB26/ISI_D6 (io), V1 PA31/MCI1_CK/PCK0 (io), V2 PB1/SPI0_MOSI (io), V3 PB2/SPI0_SPCK (io), V4 PB5/RXD1 (io), V5 PB15/SPI1_MOSI/CTS0 (io), V6 PD3/RD0 (io), V7 PD5/RF0 (io), V8 PD12/TK1/PCK0 (io), V9 PD17/CTS1 (io)
part B pins: A9 NWR3/NBS3 (out), A10 NCS0 (out), A11 DQS0 (out), A12 RAS (out), A13 SDCK (out), A14 NSDCK (out), A15 D7 (io), A16 DDR_VREF (in), A17 D0 (io), A18 A14 (out), B9 SDA10 (out), B10 A17/BA1 (out), B11 DQM0 (out), B12 SDCKE (out), B13 D12 (io), B14 D8 (io), B15 D4 (io), B16 D3 (io), B17 A15 (out), B18 A13 (out), C1 XIN32 (in), C3 WKUP (in), C9 NWR0/NWE (out), C10 A16/BA0 (out), C11 CAS (out), C12 D15 (io), C13 D10 (io), C14 D6 (io), C15 D2 (io), C17 A18 (out), C18 A12 (out), D1 XOUT32 (out), D9 NWR1/NBS1 (out), D10 NANDOE (out), D11 DQM1 (out), D12 D14 (io), D13 D9 (io), D14 D5 (io), D15 D1 (io), D17 A11 (out), D18 A10 (out), E2 TSADVREF (power), E5 TST (in), E10 NANDWE (out), E11 DQS1 (out), E12 D13 (io), E13 D11 (io), E14 A4 (out), E15 A8 (out), E16 A9 (out), E17 A7 (out), F3 SHDN (out), F10 NCS1/SDCS (out), F11 NRD (out), F12 SDWE (out), F13 A0/NBS0 (out), F14 A1/NBS2/NWR2 (out), F15 A3 (out), F16 A6 (out), F17 A5 (out), F18 A2 (out), G14 DDR_DQM0 (out), G15 DDR_DQS1 (out), G16 DDR_BA1 (out), G17 DDR_BA0 (out), G18 DDR_DQS0 (out), H14 DDR_CS (out), H15 DDR_WE (out), H16 DDR_DQM1 (out), H17 DDR_CAS (out), H18 DDR_NCLK (out), J14 DDR_A12 (out), J15 DDR_A13 (out), J16 DDR_CKE (out), J17 DDR_RAS (out), J18 DDR_CLK (out), K14 DDR_A7 (out), K15 DDR_A8 (out), K16 DDR_A9 (out), K17 DDR_A11 (out), K18 DDR_A10 (out), L14 DDR_A1 (out), L15 DDR_A3 (out), L16 DDR_A4 (out), L17 DDR_A6 (out), L18 DDR_A5 (out), M10 NRST (io), M15 DDR_D14 (io), M16 DDR_D15 (io), M17 DDR_A0 (out), M18 DDR_A2 (out), N14 DDR_D13 (io), N15 DDR_D8 (io), N16 DDR_D9 (io), N17 DDR_D11 (io), N18 DDR_D12 (io), P14 DDR_D7 (io), P15 DDR_D3 (io), P16 DDR_D4 (io), P17 DDR_D5 (io), P18 DDR_D10 (io), R14 DDR_D6 (io), R15 DDR_D1 (io), R16 DDR_D0 (io), R17 HHSDMA (io), R18 HFSDMA (io), T11 BMS (in), T14 DDR_D2 (io), T17 HHSDPA (io), T18 HFSDPA (io), U15 HHSDPB/DHSDP (io), U16 HHSDMB/DHSDM (io), V11 XOUT (out), V12 XIN (in), V15 HFSDPB/DFSDP (io), V16 HFSDMB/DFSDM (io), V18 VBG (in)
part C pins: E4 JTAGSEL (in), N10 NTRST (in), P10 TMS (in), R10 TDI (in), R11 RTCK (out), U10 TCK (in), V10 TDO (out)
part D pins: C2 GNDANA (power), C16 GNDIOM (power), D3 GNDBU (power), D4 VDDBU (power), D16 VDDIOM1 (power), E3 VDDANA (power), E18 VDDCORE (power), F6 VDDIOM1 (power), G9 GNDCORE (power), G10 VDDIOM1 (power), G11 VDDIOM1 (power), G12 VDDCORE (power), G13 VDDCORE (power), H3 VDDIOP1 (power), H9 GNDCORE (power), H10 GNDIOP (power), H11 VDDCORE (power), H12 GNDIOM (power), H13 GNDIOM (power), J9 GNDCORE (power), J10 GNDCORE (power), J11 GNDIOP (power), J12 GNDIOM (power), J13 GNDIOM (power), K9 VDDIOP0 (power), K10 VDDIOP0 (power), K11 GNDIOM (power), K12 GNDIOM (power), K13 VDDIOM0 (power), L12 VDDIOM0 (power), L13 VDDIOM0 (power), M14 VDDIOM0 (power), P11 VDDPLLA (power), U11 VDDOSC (power), U12 GNDOSC (power), U17 GNDUTMI (power), U18 VDDUTMIC (power), V13 VDDPLLUTMI (power), V14 VDDIOP2 (power), V17 VDDUTMII (power)

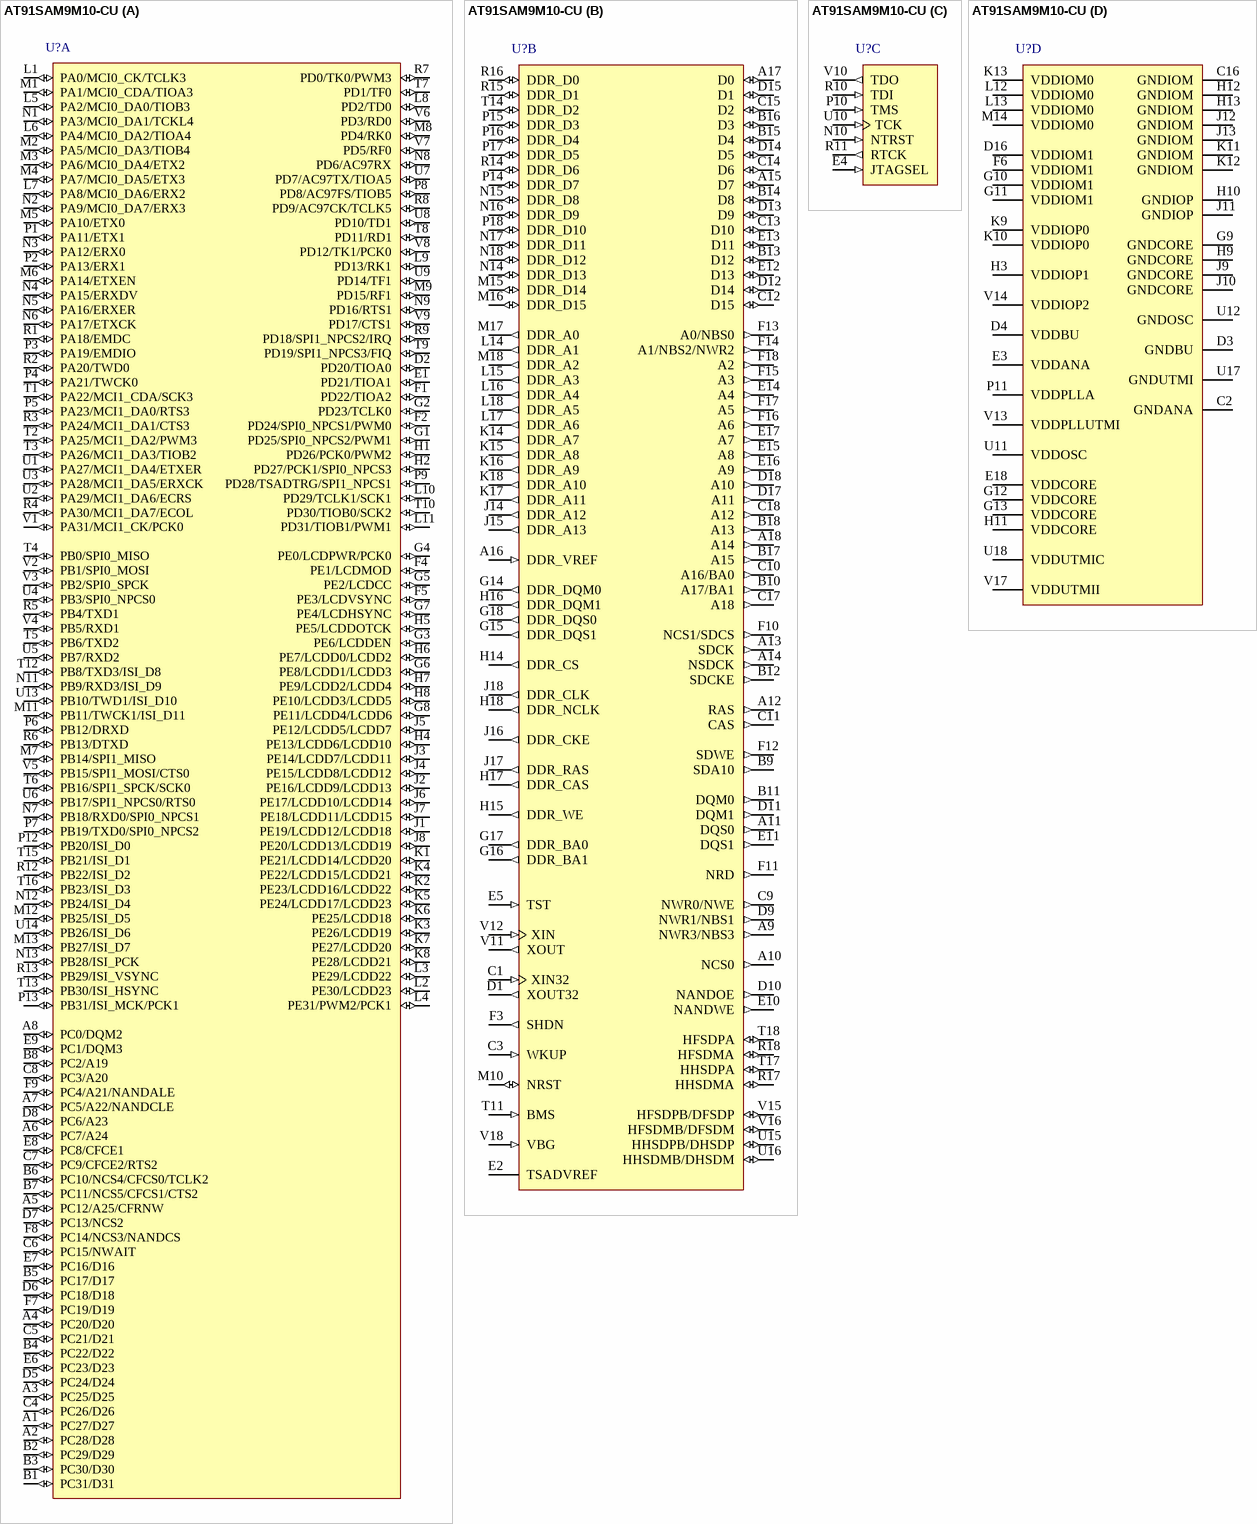
[diagram p34: symbol AT91SAM9M10-CU]

## AT91SAM9M10-CU
designator U?
AT91 ARM Thumb 32-bit Microcontroller, 64KB ROM, 64KB SRAM, EBI, E-MAC, HS USB, Video Decoder, 324-Pin TFBGA, Industrial Grade (-40°C to 85°C), Pb-Free; Published: 20-Sep-2010; DatasheetVersion: revA, Dec-2009; PackageVersion: 2009; PackageReference: TFBGA324; Publisher: Altium Limited; PackageDescription: 324-Ball Low Profile Fine-Pitch BGA, 15 x 15 mm Body, 0.8 mm Pitch; Supplier 1: Digi-Key; Supplier Part Number 1: AT91SAM9M10-CU-ND; Supplier 2: Mouser; Supplier Part Number 2: 556-AT91SAM9M10-CU; Code_JEDEC: MO-210; ComponentLink1Description: Manufacturer Link; ComponentLink1URL: http://www.atmel.com/products/AT91/default.asp?; ComponentLink2Description: AT91SAM9M10 Datasheet; ComponentLink2URL: http://www.atmel.com/dyn/resources/prod_documents/doc6355.pdf; ComponentLink3Description: AT91SAM9M10 Summary; ComponentLink3URL: http://www.atmel.com/dyn/resources/prod_documents/6355AS.pdf; ComponentLink4Description: ARM926EJ-S Reference Manual; ComponentLink4URL: http://www.atmel.com/dyn/resources/prod_documents/ARM_926EJS_TRM.pdf; ComponentLink5Description: Atmel.com Home; ComponentLink5URL: http://www.atmel.com
footprint TFBGA324 (BGA, 324-Leads, Body 15x15mm, Pitch 0.8mm)
part A pins: A1 PC27/D27 (io), A2 PC28/D28 (io), A3 PC25/D25 (io), A4 PC20/D20 (io), A5 PC12/A25/CFRNW (io), A6 PC7/A24 (io), A7 PC5/A22/NANDCLE (io), A8 PC0/DQM2 (io), B1 PC31/D31 (io), B2 PC29/D29 (io), B3 PC30/D30 (io), B4 PC22/D22 (io), B5 PC17/D17 (io), B6 PC10/NCS4/CFCS0/TCLK2 (io), B7 PC11/NCS5/CFCS1/CTS2 (io), B8 PC2/A19 (io), C4 PC26/D26 (io), C5 PC21/D21 (io), C6 PC15/NWAIT (io), C7 PC9/CFCE2/RTS2 (io), C8 PC3/A20 (io), D2 PD20/TIOA0 (io), D5 PC24/D24 (io), D6 PC18/D18 (io), D7 PC13/NCS2 (io), D8 PC6/A23 (io), E1 PD21/TIOA1 (io), E6 PC23/D23 (io), E7 PC16/D16 (io), E8 PC8/CFCE1 (io), E9 PC1/DQM3 (io), F1 PD22/TIOA2 (io), F2 PD24/SPI0_NPCS1/PWM0 (io), F4 PE1/LCDMOD (io), F5 PE3/LCDVSYNC (io), F7 PC19/D19 (io), F8 PC14/NCS3/NANDCS (io), F9 PC4/A21/NANDALE (io), G1 PD25/SPI0_NPCS2/PWM1 (io), G2 PD23/TCLK0 (io), G3 PE6/LCDDEN (io), G4 PE0/LCDPWR/PCK0 (io), G5 PE2/LCDCC (io), G6 PE8/LCDD1/LCDD3 (io), G7 PE4/LCDHSYNC (io), G8 PE11/LCDD4/LCDD6 (io), H1 PD26/PCK0/PWM2 (io), H2 PD27/PCK1/SPI0_NPCS3 (io), H4 PE13/LCDD6/LCDD10 (io), H5 PE5/LCDDOTCK (io), H6 PE7/LCDD0/LCDD2 (io), H7 PE9/LCDD2/LCDD4 (io), H8 PE10/LCDD3/LCDD5 (io), J1 PE19/LCDD12/LCDD18 (io), J2 PE16/LCDD9/LCDD13 (io), J3 PE14/LCDD7/LCDD11 (io), J4 PE15/LCDD8/LCDD12 (io), J5 PE12/LCDD5/LCDD7 (io), J6 PE17/LCDD10/LCDD14 (io), J7 PE18/LCDD11/LCDD15 (io), J8 PE20/LCDD13/LCDD19 (io), K1 PE21/LCDD14/LCDD20 (io), K2 PE23/LCDD16/LCDD22 (io), K3 PE26/LCDD19 (io), K4 PE22/LCDD15/LCDD21 (io), K5 PE24/LCDD17/LCDD23 (io), K6 PE25/LCDD18 (io), K7 PE27/LCDD20 (io), K8 PE28/LCDD21 (io), L1 PA0/MCI0_CK/TCLK3 (io), L2 PE30/LCDD23 (io), L3 PE29/LCDD22 (io), L4 PE31/PWM2/PCK1 (io), L5 PA2/MCI0_DA0/TIOB3 (io), L6 PA4/MCI0_DA2/TIOA4 (io), L7 PA8/MCI0_DA6/ERX2 (io), L8 PD2/TD0 (io), L9 PD13/RK1 (io), L10 PD29/TCLK1/SCK1 (io), L11 PD31/TIOB1/PWM1 (io), M1 PA1/MCI0_CDA/TIOA3 (io), M2 PA5/MCI0_DA3/TIOB4 (io), M3 PA6/MCI0_DA4/ETX2 (io), M4 PA7/MCI0_DA5/ETX3 (io), M5 PA10/ETX0 (io), M6 PA14/ETXEN (io), M7 PB14/SPI1_MISO (io), M8 PD4/RK0 (io), M9 PD15/RF1 (io), M11 PB11/TWCK1/ISI_D11 (io), M12 PB25/ISI_D5 (io), M13 PB27/ISI_D7 (io), N1 PA3/MCI0_DA1/TCKL4 (io), N2 PA9/MCI0_DA7/ERX3 (io), N3 PA12/ERX0 (io), N4 PA15/ERXDV (io), N5 PA16/ERXER (io), N6 PA17/ETXCK (io), N7 PB18/RXD0/SPI0_NPCS1 (io), N8 PD6/AC97RX (io), N9 PD16/RTS1 (io), N11 PB9/RXD3/ISI_D9 (io), N12 PB24/ISI_D4 (io), N13 PB28/ISI_PCK (io), P1 PA11/ETX1 (io), P2 PA13/ERX1 (io), P3 PA19/EMDIO (io), P4 PA21/TWCK0 (io), P5 PA23/MCI1_DA0/RTS3 (io), P6 PB12/DRXD (io), P7 PB19/TXD0/SPI0_NPCS2 (io), P8 PD8/AC97FS/TIOB5 (io), P9 PD28/TSADTRG/SPI1_NPCS1 (io), P12 PB20/ISI_D0 (io), P13 PB31/ISI_MCK/PCK1 (io), R1 PA18/EMDC (io), R2 PA20/TWD0 (io), R3 PA24/MCI1_DA1/CTS3 (io), R4 PA30/MCI1_DA7/ECOL (io), R5 PB4/TXD1 (io), R6 PB13/DTXD (io), R7 PD0/TK0/PWM3 (io), R8 PD9/AC97CK/TCLK5 (io), R9 PD18/SPI1_NPCS2/IRQ (io), R12 PB22/ISI_D2 (io), R13 PB29/ISI_VSYNC (io), T1 PA22/MCI1_CDA/SCK3 (io), T2 PA25/MCI1_DA2/PWM3 (io), T3 PA26/MCI1_DA3/TIOB2 (io), T4 PB0/SPI0_MISO (io), T5 PB6/TXD2 (io), T6 PB16/SPI1_SPCK/SCK0 (io), T7 PD1/TF0 (io), T8 PD11/RD1 (io), T9 PD19/SPI1_NPCS3/FIQ (io), T10 PD30/TIOB0/SCK2 (io), T12 PB8/TXD3/ISI_D8 (io), T13 PB30/ISI_HSYNC (io), T15 PB21/ISI_D1 (io), T16 PB23/ISI_D3 (io), U1 PA27/MCI1_DA4/ETXER (io), U2 PA29/MCI1_DA6/ECRS (io), U3 PA28/MCI1_DA5/ERXCK (io), U4 PB3/SPI0_NPCS0 (io), U5 PB7/RXD2 (io), U6 PB17/SPI1_NPCS0/RTS0 (io), U7 PD7/AC97TX/TIOA5 (io), U8 PD10/TD1 (io), U9 PD14/TF1 (io), U13 PB10/TWD1/ISI_D10 (io), U14 PB26/ISI_D6 (io), V1 PA31/MCI1_CK/PCK0 (io), V2 PB1/SPI0_MOSI (io), V3 PB2/SPI0_SPCK (io), V4 PB5/RXD1 (io), V5 PB15/SPI1_MOSI/CTS0 (io), V6 PD3/RD0 (io), V7 PD5/RF0 (io), V8 PD12/TK1/PCK0 (io), V9 PD17/CTS1 (io)
part B pins: A9 NWR3/NBS3 (out), A10 NCS0 (out), A11 DQS0 (out), A12 RAS (out), A13 SDCK (out), A14 NSDCK (out), A15 D7 (io), A16 DDR_VREF (in), A17 D0 (io), A18 A14 (out), B9 SDA10 (out), B10 A17/BA1 (out), B11 DQM0 (out), B12 SDCKE (out), B13 D12 (io), B14 D8 (io), B15 D4 (io), B16 D3 (io), B17 A15 (out), B18 A13 (out), C1 XIN32 (in), C3 WKUP (in), C9 NWR0/NWE (out), C10 A16/BA0 (out), C11 CAS (out), C12 D15 (io), C13 D10 (io), C14 D6 (io), C15 D2 (io), C17 A18 (out), C18 A12 (out), D1 XOUT32 (out), D9 NWR1/NBS1 (out), D10 NANDOE (out), D11 DQM1 (out), D12 D14 (io), D13 D9 (io), D14 D5 (io), D15 D1 (io), D17 A11 (out), D18 A10 (out), E2 TSADVREF (power), E5 TST (in), E10 NANDWE (out), E11 DQS1 (out), E12 D13 (io), E13 D11 (io), E14 A4 (out), E15 A8 (out), E16 A9 (out), E17 A7 (out), F3 SHDN (out), F10 NCS1/SDCS (out), F11 NRD (out), F12 SDWE (out), F13 A0/NBS0 (out), F14 A1/NBS2/NWR2 (out), F15 A3 (out), F16 A6 (out), F17 A5 (out), F18 A2 (out), G14 DDR_DQM0 (out), G15 DDR_DQS1 (out), G16 DDR_BA1 (out), G17 DDR_BA0 (out), G18 DDR_DQS0 (out), H14 DDR_CS (out), H15 DDR_WE (out), H16 DDR_DQM1 (out), H17 DDR_CAS (out), H18 DDR_NCLK (out), J14 DDR_A12 (out), J15 DDR_A13 (out), J16 DDR_CKE (out), J17 DDR_RAS (out), J18 DDR_CLK (out), K14 DDR_A7 (out), K15 DDR_A8 (out), K16 DDR_A9 (out), K17 DDR_A11 (out), K18 DDR_A10 (out), L14 DDR_A1 (out), L15 DDR_A3 (out), L16 DDR_A4 (out), L17 DDR_A6 (out), L18 DDR_A5 (out), M10 NRST (io), M15 DDR_D14 (io), M16 DDR_D15 (io), M17 DDR_A0 (out), M18 DDR_A2 (out), N14 DDR_D13 (io), N15 DDR_D8 (io), N16 DDR_D9 (io), N17 DDR_D11 (io), N18 DDR_D12 (io), P14 DDR_D7 (io), P15 DDR_D3 (io), P16 DDR_D4 (io), P17 DDR_D5 (io), P18 DDR_D10 (io), R14 DDR_D6 (io), R15 DDR_D1 (io), R16 DDR_D0 (io), R17 HHSDMA (io), R18 HFSDMA (io), T11 BMS (in), T14 DDR_D2 (io), T17 HHSDPA (io), T18 HFSDPA (io), U15 HHSDPB/DHSDP (io), U16 HHSDMB/DHSDM (io), V11 XOUT (out), V12 XIN (in), V15 HFSDPB/DFSDP (io), V16 HFSDMB/DFSDM (io), V18 VBG (in)
part C pins: E4 JTAGSEL (in), N10 NTRST (in), P10 TMS (in), R10 TDI (in), R11 RTCK (out), U10 TCK (in), V10 TDO (out)
part D pins: C2 GNDANA (power), C16 GNDIOM (power), D3 GNDBU (power), D4 VDDBU (power), D16 VDDIOM1 (power), E3 VDDANA (power), E18 VDDCORE (power), F6 VDDIOM1 (power), G9 GNDCORE (power), G10 VDDIOM1 (power), G11 VDDIOM1 (power), G12 VDDCORE (power), G13 VDDCORE (power), H3 VDDIOP1 (power), H9 GNDCORE (power), H10 GNDIOP (power), H11 VDDCORE (power), H12 GNDIOM (power), H13 GNDIOM (power), J9 GNDCORE (power), J10 GNDCORE (power), J11 GNDIOP (power), J12 GNDIOM (power), J13 GNDIOM (power), K9 VDDIOP0 (power), K10 VDDIOP0 (power), K11 GNDIOM (power), K12 GNDIOM (power), K13 VDDIOM0 (power), L12 VDDIOM0 (power), L13 VDDIOM0 (power), M14 VDDIOM0 (power), P11 VDDPLLA (power), U11 VDDOSC (power), U12 GNDOSC (power), U17 GNDUTMI (power), U18 VDDUTMIC (power), V13 VDDPLLUTMI (power), V14 VDDIOP2 (power), V17 VDDUTMII (power)

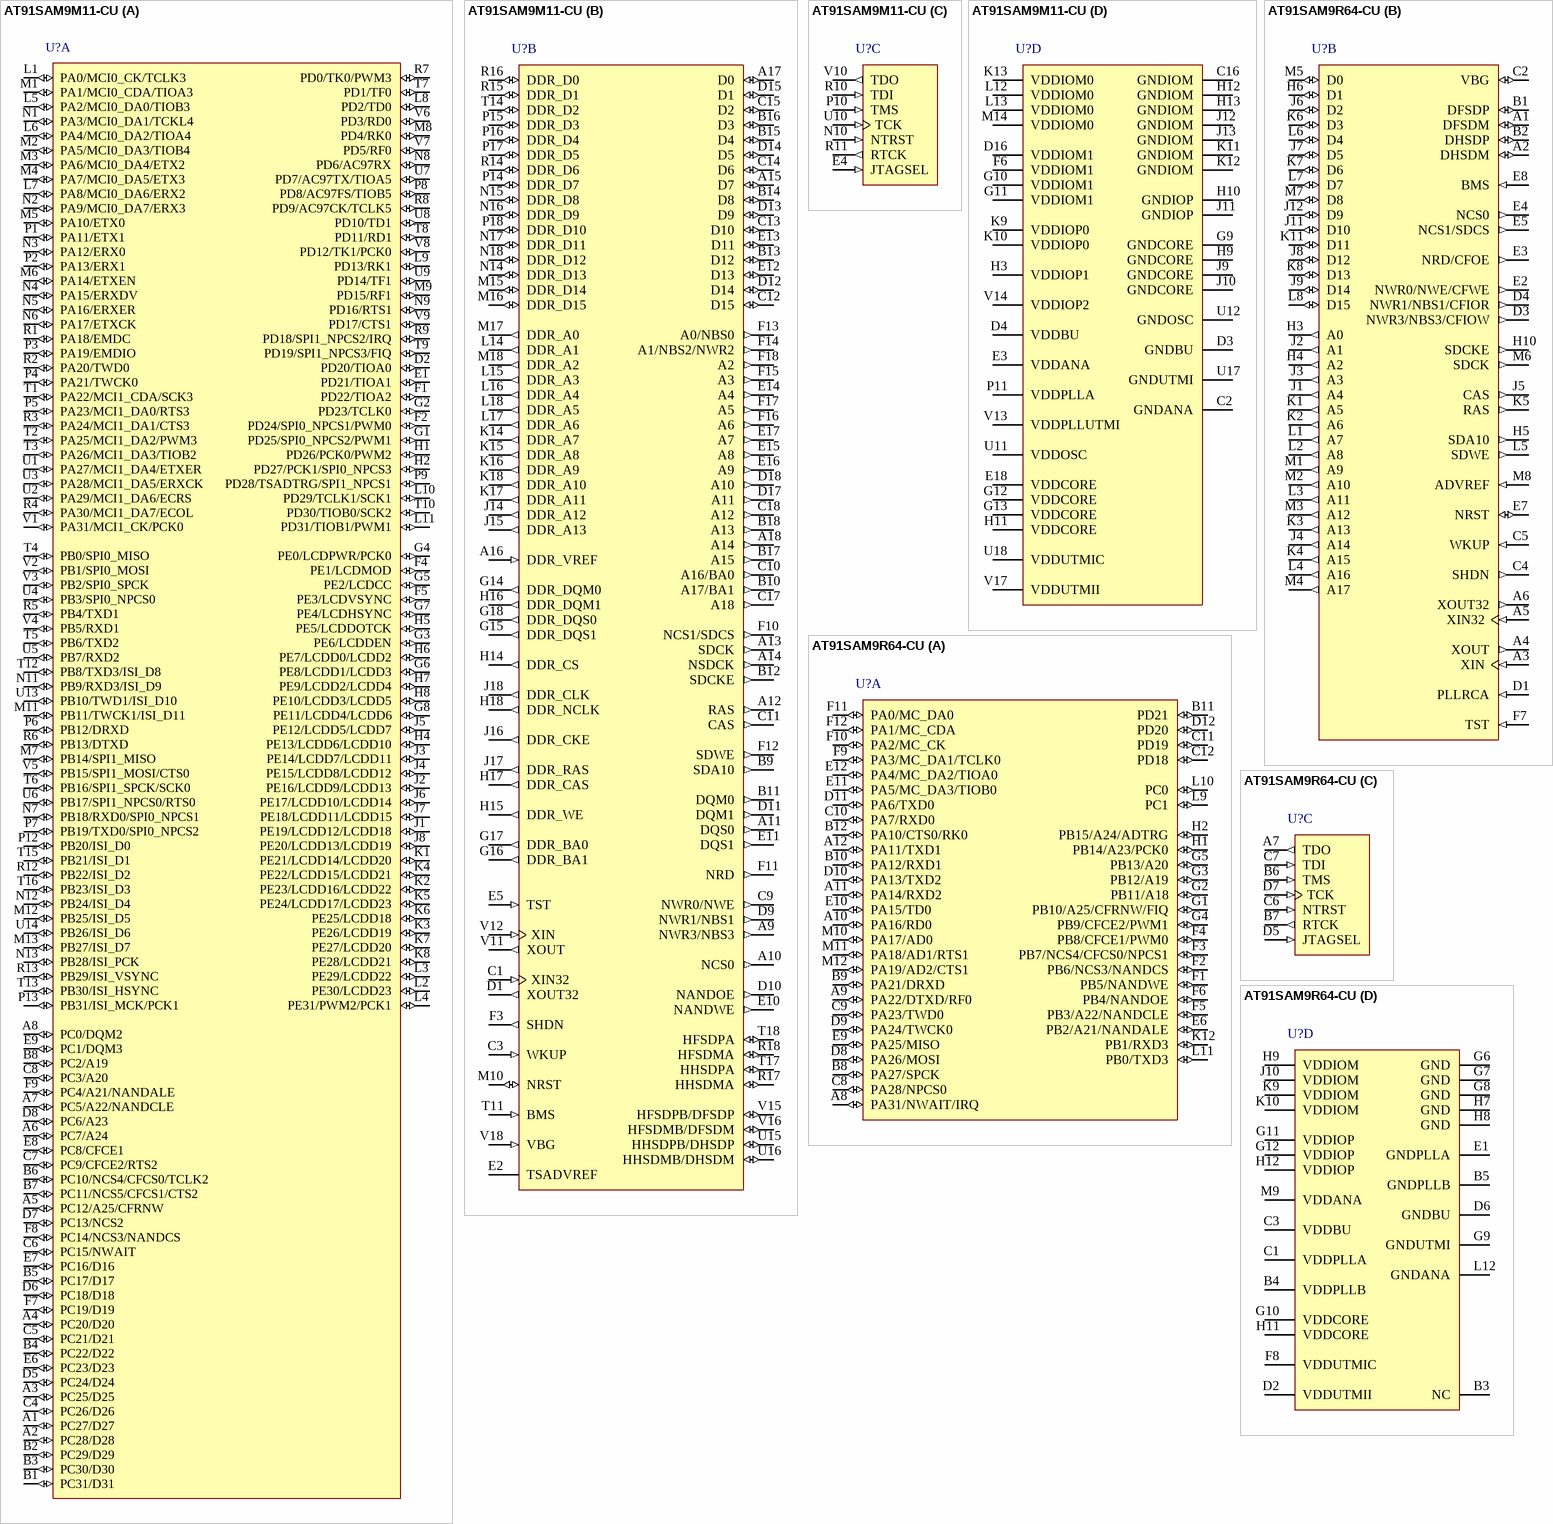
[diagram p35: symbols AT91SAM9M11-CU to AT91SAM9R64-CU]

## AT91SAM9M11-CU
designator U?
AT91 ARM Thumb 32-bit Microcontroller, 64KB ROM, 64KB SRAM, EBI, E-MAC, HS USB, 256-bit AES, Video Decoder, 324-Pin TFBGA, Industrial Grade (-40°C to 85°C), Pb-Free; Published: 20-Sep-2010; DatasheetVersion: revBS, Apr-2010; PackageVersion: 2009; PackageReference: TFBGA324; Publisher: Altium Limited; PackageDescription: 324-Ball Low Profile Fine-Pitch BGA, 15 x 15 mm Body, 0.8 mm Pitch; Supplier 1: Digi-Key; Supplier Part Number 1: AT91SAM9M11-CU-ND; Supplier 2: Mouser; Supplier Part Number 2: 556-AT91SAM9M11-CU; Code_JEDEC: MO-210; ComponentLink1Description: Manufacturer Link; ComponentLink1URL: http://www.atmel.com/products/AT91/default.asp?; ComponentLink2Description: AT91SAM9M11 Summary; ComponentLink2URL: http://www.atmel.com/dyn/resources/prod_documents/6437S.pdf; ComponentLink3Description: ARM926EJ-S Reference Manual; ComponentLink3URL: http://www.atmel.com/dyn/resources/prod_documents/ARM_926EJS_TRM.pdf; ComponentLink4Description: Atmel.com Home; ComponentLink4URL: http://www.atmel.com
footprint TFBGA324 (BGA, 324-Leads, Body 15x15mm, Pitch 0.8mm)
part A pins: A1 PC27/D27 (io), A2 PC28/D28 (io), A3 PC25/D25 (io), A4 PC20/D20 (io), A5 PC12/A25/CFRNW (io), A6 PC7/A24 (io), A7 PC5/A22/NANDCLE (io), A8 PC0/DQM2 (io), B1 PC31/D31 (io), B2 PC29/D29 (io), B3 PC30/D30 (io), B4 PC22/D22 (io), B5 PC17/D17 (io), B6 PC10/NCS4/CFCS0/TCLK2 (io), B7 PC11/NCS5/CFCS1/CTS2 (io), B8 PC2/A19 (io), C4 PC26/D26 (io), C5 PC21/D21 (io), C6 PC15/NWAIT (io), C7 PC9/CFCE2/RTS2 (io), C8 PC3/A20 (io), D2 PD20/TIOA0 (io), D5 PC24/D24 (io), D6 PC18/D18 (io), D7 PC13/NCS2 (io), D8 PC6/A23 (io), E1 PD21/TIOA1 (io), E6 PC23/D23 (io), E7 PC16/D16 (io), E8 PC8/CFCE1 (io), E9 PC1/DQM3 (io), F1 PD22/TIOA2 (io), F2 PD24/SPI0_NPCS1/PWM0 (io), F4 PE1/LCDMOD (io), F5 PE3/LCDVSYNC (io), F7 PC19/D19 (io), F8 PC14/NCS3/NANDCS (io), F9 PC4/A21/NANDALE (io), G1 PD25/SPI0_NPCS2/PWM1 (io), G2 PD23/TCLK0 (io), G3 PE6/LCDDEN (io), G4 PE0/LCDPWR/PCK0 (io), G5 PE2/LCDCC (io), G6 PE8/LCDD1/LCDD3 (io), G7 PE4/LCDHSYNC (io), G8 PE11/LCDD4/LCDD6 (io), H1 PD26/PCK0/PWM2 (io), H2 PD27/PCK1/SPI0_NPCS3 (io), H4 PE13/LCDD6/LCDD10 (io), H5 PE5/LCDDOTCK (io), H6 PE7/LCDD0/LCDD2 (io), H7 PE9/LCDD2/LCDD4 (io), H8 PE10/LCDD3/LCDD5 (io), J1 PE19/LCDD12/LCDD18 (io), J2 PE16/LCDD9/LCDD13 (io), J3 PE14/LCDD7/LCDD11 (io), J4 PE15/LCDD8/LCDD12 (io), J5 PE12/LCDD5/LCDD7 (io), J6 PE17/LCDD10/LCDD14 (io), J7 PE18/LCDD11/LCDD15 (io), J8 PE20/LCDD13/LCDD19 (io), K1 PE21/LCDD14/LCDD20 (io), K2 PE23/LCDD16/LCDD22 (io), K3 PE26/LCDD19 (io), K4 PE22/LCDD15/LCDD21 (io), K5 PE24/LCDD17/LCDD23 (io), K6 PE25/LCDD18 (io), K7 PE27/LCDD20 (io), K8 PE28/LCDD21 (io), L1 PA0/MCI0_CK/TCLK3 (io), L2 PE30/LCDD23 (io), L3 PE29/LCDD22 (io), L4 PE31/PWM2/PCK1 (io), L5 PA2/MCI0_DA0/TIOB3 (io), L6 PA4/MCI0_DA2/TIOA4 (io), L7 PA8/MCI0_DA6/ERX2 (io), L8 PD2/TD0 (io), L9 PD13/RK1 (io), L10 PD29/TCLK1/SCK1 (io), L11 PD31/TIOB1/PWM1 (io), M1 PA1/MCI0_CDA/TIOA3 (io), M2 PA5/MCI0_DA3/TIOB4 (io), M3 PA6/MCI0_DA4/ETX2 (io), M4 PA7/MCI0_DA5/ETX3 (io), M5 PA10/ETX0 (io), M6 PA14/ETXEN (io), M7 PB14/SPI1_MISO (io), M8 PD4/RK0 (io), M9 PD15/RF1 (io), M11 PB11/TWCK1/ISI_D11 (io), M12 PB25/ISI_D5 (io), M13 PB27/ISI_D7 (io), N1 PA3/MCI0_DA1/TCKL4 (io), N2 PA9/MCI0_DA7/ERX3 (io), N3 PA12/ERX0 (io), N4 PA15/ERXDV (io), N5 PA16/ERXER (io), N6 PA17/ETXCK (io), N7 PB18/RXD0/SPI0_NPCS1 (io), N8 PD6/AC97RX (io), N9 PD16/RTS1 (io), N11 PB9/RXD3/ISI_D9 (io), N12 PB24/ISI_D4 (io), N13 PB28/ISI_PCK (io), P1 PA11/ETX1 (io), P2 PA13/ERX1 (io), P3 PA19/EMDIO (io), P4 PA21/TWCK0 (io), P5 PA23/MCI1_DA0/RTS3 (io), P6 PB12/DRXD (io), P7 PB19/TXD0/SPI0_NPCS2 (io), P8 PD8/AC97FS/TIOB5 (io), P9 PD28/TSADTRG/SPI1_NPCS1 (io), P12 PB20/ISI_D0 (io), P13 PB31/ISI_MCK/PCK1 (io), R1 PA18/EMDC (io), R2 PA20/TWD0 (io), R3 PA24/MCI1_DA1/CTS3 (io), R4 PA30/MCI1_DA7/ECOL (io), R5 PB4/TXD1 (io), R6 PB13/DTXD (io), R7 PD0/TK0/PWM3 (io), R8 PD9/AC97CK/TCLK5 (io), R9 PD18/SPI1_NPCS2/IRQ (io), R12 PB22/ISI_D2 (io), R13 PB29/ISI_VSYNC (io), T1 PA22/MCI1_CDA/SCK3 (io), T2 PA25/MCI1_DA2/PWM3 (io), T3 PA26/MCI1_DA3/TIOB2 (io), T4 PB0/SPI0_MISO (io), T5 PB6/TXD2 (io), T6 PB16/SPI1_SPCK/SCK0 (io), T7 PD1/TF0 (io), T8 PD11/RD1 (io), T9 PD19/SPI1_NPCS3/FIQ (io), T10 PD30/TIOB0/SCK2 (io), T12 PB8/TXD3/ISI_D8 (io), T13 PB30/ISI_HSYNC (io), T15 PB21/ISI_D1 (io), T16 PB23/ISI_D3 (io), U1 PA27/MCI1_DA4/ETXER (io), U2 PA29/MCI1_DA6/ECRS (io), U3 PA28/MCI1_DA5/ERXCK (io), U4 PB3/SPI0_NPCS0 (io), U5 PB7/RXD2 (io), U6 PB17/SPI1_NPCS0/RTS0 (io), U7 PD7/AC97TX/TIOA5 (io), U8 PD10/TD1 (io), U9 PD14/TF1 (io), U13 PB10/TWD1/ISI_D10 (io), U14 PB26/ISI_D6 (io), V1 PA31/MCI1_CK/PCK0 (io), V2 PB1/SPI0_MOSI (io), V3 PB2/SPI0_SPCK (io), V4 PB5/RXD1 (io), V5 PB15/SPI1_MOSI/CTS0 (io), V6 PD3/RD0 (io), V7 PD5/RF0 (io), V8 PD12/TK1/PCK0 (io), V9 PD17/CTS1 (io)
part B pins: A9 NWR3/NBS3 (out), A10 NCS0 (out), A11 DQS0 (out), A12 RAS (out), A13 SDCK (out), A14 NSDCK (out), A15 D7 (io), A16 DDR_VREF (in), A17 D0 (io), A18 A14 (out), B9 SDA10 (out), B10 A17/BA1 (out), B11 DQM0 (out), B12 SDCKE (out), B13 D12 (io), B14 D8 (io), B15 D4 (io), B16 D3 (io), B17 A15 (out), B18 A13 (out), C1 XIN32 (in), C3 WKUP (in), C9 NWR0/NWE (out), C10 A16/BA0 (out), C11 CAS (out), C12 D15 (io), C13 D10 (io), C14 D6 (io), C15 D2 (io), C17 A18 (out), C18 A12 (out), D1 XOUT32 (out), D9 NWR1/NBS1 (out), D10 NANDOE (out), D11 DQM1 (out), D12 D14 (io), D13 D9 (io), D14 D5 (io), D15 D1 (io), D17 A11 (out), D18 A10 (out), E2 TSADVREF (power), E5 TST (in), E10 NANDWE (out), E11 DQS1 (out), E12 D13 (io), E13 D11 (io), E14 A4 (out), E15 A8 (out), E16 A9 (out), E17 A7 (out), F3 SHDN (out), F10 NCS1/SDCS (out), F11 NRD (out), F12 SDWE (out), F13 A0/NBS0 (out), F14 A1/NBS2/NWR2 (out), F15 A3 (out), F16 A6 (out), F17 A5 (out), F18 A2 (out), G14 DDR_DQM0 (out), G15 DDR_DQS1 (out), G16 DDR_BA1 (out), G17 DDR_BA0 (out), G18 DDR_DQS0 (out), H14 DDR_CS (out), H15 DDR_WE (out), H16 DDR_DQM1 (out), H17 DDR_CAS (out), H18 DDR_NCLK (out), J14 DDR_A12 (out), J15 DDR_A13 (out), J16 DDR_CKE (out), J17 DDR_RAS (out), J18 DDR_CLK (out), K14 DDR_A7 (out), K15 DDR_A8 (out), K16 DDR_A9 (out), K17 DDR_A11 (out), K18 DDR_A10 (out), L14 DDR_A1 (out), L15 DDR_A3 (out), L16 DDR_A4 (out), L17 DDR_A6 (out), L18 DDR_A5 (out), M10 NRST (io), M15 DDR_D14 (io), M16 DDR_D15 (io), M17 DDR_A0 (out), M18 DDR_A2 (out), N14 DDR_D13 (io), N15 DDR_D8 (io), N16 DDR_D9 (io), N17 DDR_D11 (io), N18 DDR_D12 (io), P14 DDR_D7 (io), P15 DDR_D3 (io), P16 DDR_D4 (io), P17 DDR_D5 (io), P18 DDR_D10 (io), R14 DDR_D6 (io), R15 DDR_D1 (io), R16 DDR_D0 (io), R17 HHSDMA (io), R18 HFSDMA (io), T11 BMS (in), T14 DDR_D2 (io), T17 HHSDPA (io), T18 HFSDPA (io), U15 HHSDPB/DHSDP (io), U16 HHSDMB/DHSDM (io), V11 XOUT (out), V12 XIN (in), V15 HFSDPB/DFSDP (io), V16 HFSDMB/DFSDM (io), V18 VBG (in)
part C pins: E4 JTAGSEL (in), N10 NTRST (in), P10 TMS (in), R10 TDI (in), R11 RTCK (out), U10 TCK (in), V10 TDO (out)
part D pins: C2 GNDANA (power), C16 GNDIOM (power), D3 GNDBU (power), D4 VDDBU (power), D16 VDDIOM1 (power), E3 VDDANA (power), E18 VDDCORE (power), F6 VDDIOM1 (power), G9 GNDCORE (power), G10 VDDIOM1 (power), G11 VDDIOM1 (power), G12 VDDCORE (power), G13 VDDCORE (power), H3 VDDIOP1 (power), H9 GNDCORE (power), H10 GNDIOP (power), H11 VDDCORE (power), H12 GNDIOM (power), H13 GNDIOM (power), J9 GNDCORE (power), J10 GNDCORE (power), J11 GNDIOP (power), J12 GNDIOM (power), J13 GNDIOM (power), K9 VDDIOP0 (power), K10 VDDIOP0 (power), K11 GNDIOM (power), K12 GNDIOM (power), K13 VDDIOM0 (power), L12 VDDIOM0 (power), L13 VDDIOM0 (power), M14 VDDIOM0 (power), P11 VDDPLLA (power), U11 VDDOSC (power), U12 GNDOSC (power), U17 GNDUTMI (power), U18 VDDUTMIC (power), V13 VDDPLLUTMI (power), V14 VDDIOP2 (power), V17 VDDUTMII (power)

## AT91SAM9R64-CU
designator U?
AT91 ARM Thumb 32-bit Microcontroller, 32KB ROM, 64KB SRAM, EBI, 3-ch. 10-bit ADC, 18-ch. PDC, 144-Pin LFBGA, Industrial Grade (-40°C to 85°C), Pb-Free; Published: 20-Sep-2010; DatasheetVersion: revC, May-2009; PackageVersion: 2008; PackageReference: LFBGA144; Publisher: Altium Limited; PackageDescription: 144-Ball Low Profile Fine Pitch BGA, 10 x 10 x 1.4 mm Body, 0.8 mm Pitch; Supplier 1: Digi-Key; Supplier Part Number 1: AT91SAM9R64-CU-ND; Supplier 2: Farnell; Supplier Part Number 2: 1773390; Supplier 3: Mouser; Supplier Part Number 3: 556-AT91SAM9R64-CU; Code_JEDEC: MS-026; ComponentLink1Description: Manufacturer Link; ComponentLink1URL: http://www.atmel.com/products/AT91/default.asp?; ComponentLink2Description: AT91SAM9R/RL64 Datasheet; ComponentLink2URL: http://www.atmel.com/dyn/resources/prod_documents/doc6289.pdf; ComponentLink3Description: AT91SAM9R/RL64 Summary; ComponentLink3URL: http://www.atmel.com/dyn/resources/prod_documents/6289s.pdf; ComponentLink4Description: ARM926EJ-S Reference Manual; ComponentLink4URL: http://www.atmel.com/dyn/resources/prod_documents/ARM_926EJS_TRM.pdf; ComponentLink5Description: Atmel.com Home; ComponentLink5URL: http://www.atmel.com
footprint LFBGA144 (BGA, 144-Leads, Body 10x10mm, Pitch 0.8mm)
part A pins: A8 PA31/NWAIT/IRQ (io), A9 PA22/DTXD/RF0 (io), A10 PA16/RD0 (io), A11 PA14/RXD2 (io), A12 PA11/TXD1 (io), B8 PA27/SPCK (io), B9 PA21/DRXD (io), B10 PA12/RXD1 (io), B11 PD21 (io), B12 PA10/CTS0/RK0 (io), C8 PA28/NPCS0 (io), C9 PA23/TWD0 (io), C10 PA7/RXD0 (io), C11 PD19 (io), C12 PD18 (io), D8 PA26/MOSI (io), D9 PA24/TWCK0 (io), D10 PA13/TXD2 (io), D11 PA6/TXD0 (io), D12 PD20 (io), E6 PB2/A21/NANDALE (io), E9 PA25/MISO (io), E10 PA15/TD0 (io), E11 PA5/MC_DA3/TIOB0 (io), E12 PA4/MC_DA2/TIOA0 (io), F1 PB5/NANDWE (io), F2 PB6/NCS3/NANDCS (io), F3 PB7/NCS4/CFCS0/NPCS1 (io), F4 PB8/CFCE1/PWM0 (io), F5 PB3/A22/NANDCLE (io), F6 PB4/NANDOE (io), F9 PA3/MC_DA1/TCLK0 (io), F10 PA2/MC_CK (io), F11 PA0/MC_DA0 (io), F12 PA1/MC_CDA (io), G1 PB10/A25/CFRNW/FIQ (io), G2 PB11/A18 (io), G3 PB12/A19 (io), G4 PB9/CFCE2/PWM1 (io), G5 PB13/A20 (io), H1 PB14/A23/PCK0 (io), H2 PB15/A24/ADTRG (io), K12 PB1/RXD3 (io), L9 PC1 (io), L10 PC0 (io), L11 PB0/TXD3 (io), M10 PA17/AD0 (io), M11 PA18/AD1/RTS1 (io), M12 PA19/AD2/CTS1 (io)
part B pins: A1 DFSDM (io), A2 DHSDM (io), A3 XIN (in), A4 XOUT (out), A5 XIN32 (in), A6 XOUT32 (out), B1 DFSDP (io), B2 DHSDP (io), C2 VBG (io), C4 SHDN (out), C5 WKUP (in), D1 PLLRCA (in), D3 NWR3/NBS3/CFIOW (out), D4 NWR1/NBS1/CFIOR (out), E2 NWR0/NWE/CFWE (out), E3 NRD/CFOE (out), E4 NCS0 (out), E5 NCS1/SDCS (out), E7 NRST (io), E8 BMS (in), F7 TST (in), H3 A0 (out), H4 A2 (out), H5 SDA10 (out), H6 D1 (io), H10 SDCKE (out), J1 A4 (out), J2 A1 (out), J3 A3 (out), J4 A14 (out), J5 CAS (out), J6 D2 (io), J7 D5 (io), J8 D12 (io), J9 D14 (io), J11 D10 (io), J12 D9 (io), K1 A5 (out), K2 A6 (out), K3 A13 (out), K4 A15 (out), K5 RAS (out), K6 D3 (io), K7 D6 (io), K8 D13 (io), K11 D11 (io), L1 A7 (out), L2 A8 (out), L3 A11 (out), L4 A16 (out), L5 SDWE (out), L6 D4 (io), L7 D7 (io), L8 D15 (io), M1 A9 (out), M2 A10 (out), M3 A12 (out), M4 A17 (out), M5 D0 (io), M6 SDCK (out), M7 D8 (io), M8 ADVREF (in)
part C pins: A7 TDO (out), B6 TMS (in), B7 RTCK (out), C6 NTRST (in), C7 TDI (in), D5 JTAGSEL (in), D7 TCK (in)
part D pins: B3 NC, B4 VDDPLLB (power), B5 GNDPLLB (power), C1 VDDPLLA (power), C3 VDDBU (power), D2 VDDUTMII (power), D6 GNDBU (power), E1 GNDPLLA (power), F8 VDDUTMIC (power), G6 GND (power), G7 GND (power), G8 GND (power), G9 GNDUTMI (power), G10 VDDCORE (power), G11 VDDIOP (power), G12 VDDIOP (power), H7 GND (power), H8 GND (power), H9 VDDIOM (power), H11 VDDCORE (power), H12 VDDIOP (power), J10 VDDIOM (power), K9 VDDIOM (power), K10 VDDIOM (power), L12 GNDANA (power), M9 VDDANA (power)

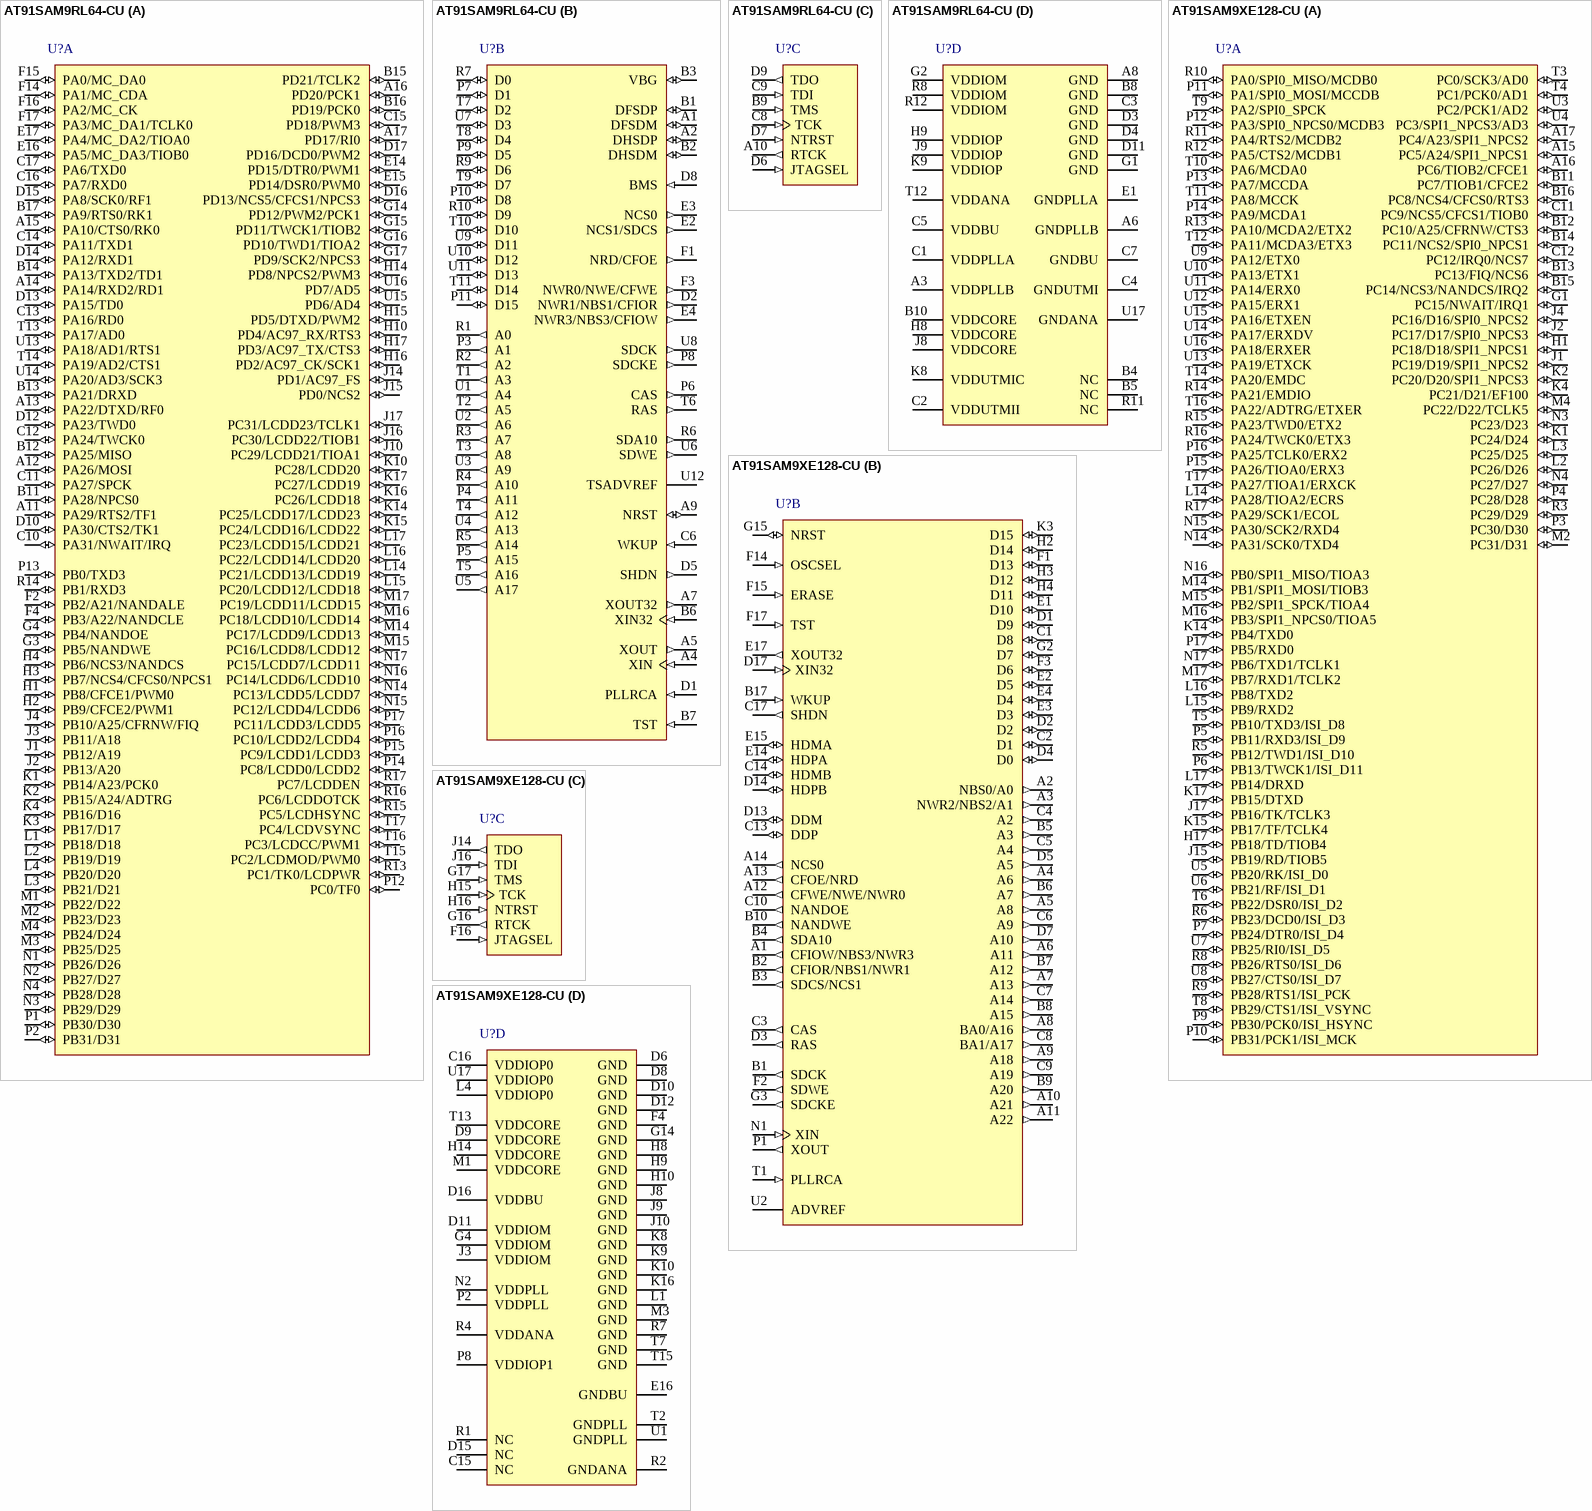
[diagram p36: symbols AT91SAM9RL64-CU to AT91SAM9XE128-CU]

## AT91SAM9RL64-CU
designator U?
AT91 ARM Thumb 32-bit Microcontroller, 32KB ROM, 64KB SRAM, EBI, 6-ch. 10-bit ADC, 22-ch. PDC, 217-Pin LFBGA, Industrial Grade (-40°C to 85°C), Pb-Free; Published: 20-Sep-2010; DatasheetVersion: revC, May-2009; PackageVersion: 2009; PackageReference: LFBGA217; Publisher: Altium Limited; PackageDescription: 217-Ball Plastic Low Profile Fine-Pitch BGA, 15 x 15 mm Body, 0.8 mm Pitch; Supplier 1: Digi-Key; Supplier Part Number 1: AT91SAM9RL64-CU-ND; Supplier 2: Farnell; Supplier Part Number 2: 1715472; Supplier 3: Mouser; Supplier Part Number 3: 556-AT91SAM9RL64-CU; Code_JEDEC: MO-205; ComponentLink1Description: Manufacturer Link; ComponentLink1URL: http://www.atmel.com/products/AT91/default.asp?; ComponentLink2Description: AT91SAM9R/RL64 Datasheet; ComponentLink2URL: http://www.atmel.com/dyn/resources/prod_documents/doc6289.pdf; ComponentLink3Description: AT91SAM9R/RL64 Summary; ComponentLink3URL: http://www.atmel.com/dyn/resources/prod_documents/6289s.pdf; ComponentLink4Description: ARM926EJ-S Reference Manual; ComponentLink4URL: http://www.atmel.com/dyn/resources/prod_documents/ARM_926EJS_TRM.pdf; ComponentLink5Description: Atmel.com Home; ComponentLink5URL: http://www.atmel.com
footprint LFBGA217 (BGA, 208-Leads, Body 15x15mm, Pitch 0.8mm)
part A pins: A11 PA29/RTS2/TF1 (io), A12 PA26/MOSI (io), A13 PA22/DTXD/RF0 (io), A14 PA14/RXD2/RD1 (io), A15 PA10/CTS0/RK0 (io), A16 PD20/PCK1 (io), A17 PD17/RI0 (io), B11 PA28/NPCS0 (io), B12 PA25/MISO (io), B13 PA21/DRXD (io), B14 PA13/TXD2/TD1 (io), B15 PD21/TCLK2 (io), B16 PD19/PCK0 (io), B17 PA9/RTS0/RK1 (io), C10 PA31/NWAIT/IRQ (io), C11 PA27/SPCK (io), C12 PA24/TWCK0 (io), C13 PA16/RD0 (io), C14 PA11/TXD1 (io), C15 PD18/PWM3 (io), C16 PA7/RXD0 (io), C17 PA6/TXD0 (io), D10 PA30/CTS2/TK1 (io), D12 PA23/TWD0 (io), D13 PA15/TD0 (io), D14 PA12/RXD1 (io), D15 PA8/SCK0/RF1 (io), D16 PD13/NCS5/CFCS1/NPCS3 (io), D17 PD16/DCD0/PWM2 (io), E14 PD15/DTR0/PWM1 (io), E15 PD14/DSR0/PWM0 (io), E16 PA5/MC_DA3/TIOB0 (io), E17 PA4/MC_DA2/TIOA0 (io), F2 PB2/A21/NANDALE (io), F4 PB3/A22/NANDCLE (io), F14 PA1/MC_CDA (io), F15 PA0/MC_DA0 (io), F16 PA2/MC_CK (io), F17 PA3/MC_DA1/TCLK0 (io), G3 PB5/NANDWE (io), G4 PB4/NANDOE (io), G14 PD12/PWM2/PCK1 (io), G15 PD11/TWCK1/TIOB2 (io), G16 PD10/TWD1/TIOA2 (io), G17 PD9/SCK2/NPCS3 (io), H1 PB8/CFCE1/PWM0 (io), H2 PB9/CFCE2/PWM1 (io), H3 PB7/NCS4/CFCS0/NPCS1 (io), H4 PB6/NCS3/NANDCS (io), H10 PD4/AC97_RX/RTS3 (io), H14 PD8/NPCS2/PWM3 (io), H15 PD5/DTXD/PWM2 (io), H16 PD2/AC97_CK/SCK1 (io), H17 PD3/AC97_TX/CTS3 (io), J1 PB12/A19 (io), J2 PB13/A20 (io), J3 PB11/A18 (io), J4 PB10/A25/CFRNW/FIQ (io), J10 PC29/LCDD21/TIOA1 (io), J14 PD1/AC97_FS (io), J15 PD0/NCS2 (io), J16 PC30/LCDD22/TIOB1 (io), J17 PC31/LCDD23/TCLK1 (io), K1 PB14/A23/PCK0 (io), K2 PB15/A24/ADTRG (io), K3 PB17/D17 (io), K4 PB16/D16 (io), K10 PC28/LCDD20 (io), K14 PC25/LCDD17/LCDD23 (io), K15 PC24/LCDD16/LCDD22 (io), K16 PC26/LCDD18 (io), K17 PC27/LCDD19 (io), L1 PB18/D18 (io), L2 PB19/D19 (io), L3 PB21/D21 (io), L4 PB20/D20 (io), L14 PC21/LCDD13/LCDD19 (io), L15 PC20/LCDD12/LCDD18 (io), L16 PC22/LCDD14/LCDD20 (io), L17 PC23/LCDD15/LCDD21 (io), M1 PB22/D22 (io), M2 PB23/D23 (io), M3 PB25/D25 (io), M4 PB24/D24 (io), M14 PC17/LCDD9/LCDD13 (io), M15 PC16/LCDD8/LCDD12 (io), M16 PC18/LCDD10/LCDD14 (io), M17 PC19/LCDD11/LCDD15 (io), N1 PB26/D26 (io), N2 PB27/D27 (io), N3 PB29/D29 (io), N4 PB28/D28 (io), N14 PC13/LCDD5/LCDD7 (io), N15 PC12/LCDD4/LCDD6 (io), N16 PC14/LCDD6/LCDD10 (io), N17 PC15/LCDD7/LCDD11 (io), P1 PB30/D30 (io), P2 PB31/D31 (io), P12 PC0/TF0 (io), P13 PB0/TXD3 (io), P14 PC8/LCDD0/LCDD2 (io), P15 PC9/LCDD1/LCDD3 (io), P16 PC10/LCDD2/LCDD4 (io), P17 PC11/LCDD3/LCDD5 (io), R13 PC1/TK0/LCDPWR (io), R14 PB1/RXD3 (io), R15 PC5/LCDHSYNC (io), R16 PC6/LCDDOTCK (io), R17 PC7/LCDDEN (io), T13 PA17/AD0 (io), T14 PA19/AD2/CTS1 (io), T15 PC2/LCDMOD/PWM0 (io), T16 PC3/LCDCC/PWM1 (io), T17 PC4/LCDVSYNC (io), U13 PA18/AD1/RTS1 (io), U14 PA20/AD3/SCK3 (io), U15 PD6/AD4 (io), U16 PD7/AD5 (io)
part B pins: A1 DFSDM (io), A2 DHSDP (io), A4 XIN (in), A5 XOUT (out), A7 XOUT32 (out), A9 NRST (io), B1 DFSDP (io), B2 DHSDM (io), B3 VBG (io), B6 XIN32 (in), B7 TST (in), C6 WKUP (in), D1 PLLRCA (in), D2 NWR1/NBS1/CFIOR (out), D5 SHDN (out), D8 BMS (in), E2 NCS1/SDCS (out), E3 NCS0 (out), E4 NWR3/NBS3/CFIOW (out), F1 NRD/CFOE (out), F3 NWR0/NWE/CFWE (out), P3 A1 (out), P4 A11 (out), P5 A15 (out), P6 CAS (out), P7 D1 (io), P8 SDCKE (out), P9 D5 (io), P10 D8 (io), P11 D15 (io), R1 A0 (out), R2 A2 (out), R3 A7 (out), R4 A10 (out), R5 A14 (out), R6 SDA10 (out), R7 D0 (io), R9 D6 (io), R10 D9 (io), T1 A3 (out), T2 A5 (out), T3 A8 (out), T4 A12 (out), T5 A16 (out), T6 RAS (out), T7 D2 (io), T8 D4 (io), T9 D7 (io), T10 D10 (io), T11 D14 (io), U1 A4 (out), U2 A6 (out), U3 A9 (out), U4 A13 (out), U5 A17 (out), U6 SDWE (out), U7 D3 (io), U8 SDCK (out), U9 D11 (io), U10 D12 (io), U11 D13 (io), U12 TSADVREF (power)
part C pins: A10 RTCK (out), B9 TMS (in), C8 TCK (in), C9 TDI (in), D6 JTAGSEL (in), D7 NTRST (in), D9 TDO (out)
part D pins: A3 VDDPLLB (power), A6 GNDPLLB (power), A8 GND (power), B4 NC, B5 NC, B8 GND (power), B10 VDDCORE (power), C1 VDDPLLA (power), C2 VDDUTMII (power), C3 GND (power), C4 GNDUTMI (power), C5 VDDBU (power), C7 GNDBU (power), D3 GND (power), D4 GND (power), D11 GND (power), E1 GNDPLLA (power), G1 GND (power), G2 VDDIOM (power), H8 VDDCORE (power), H9 VDDIOP (power), J8 VDDCORE (power), J9 VDDIOP (power), K8 VDDUTMIC (power), K9 VDDIOP (power), R8 VDDIOM (power), R11 NC, R12 VDDIOM (power), T12 VDDANA (power), U17 GNDANA (power)